# Altium schematic symbol library chip.SchLib: 107 symbols (part 1 of 2)
Pins are listed as number, name and electrical type; pins without a type are passive.

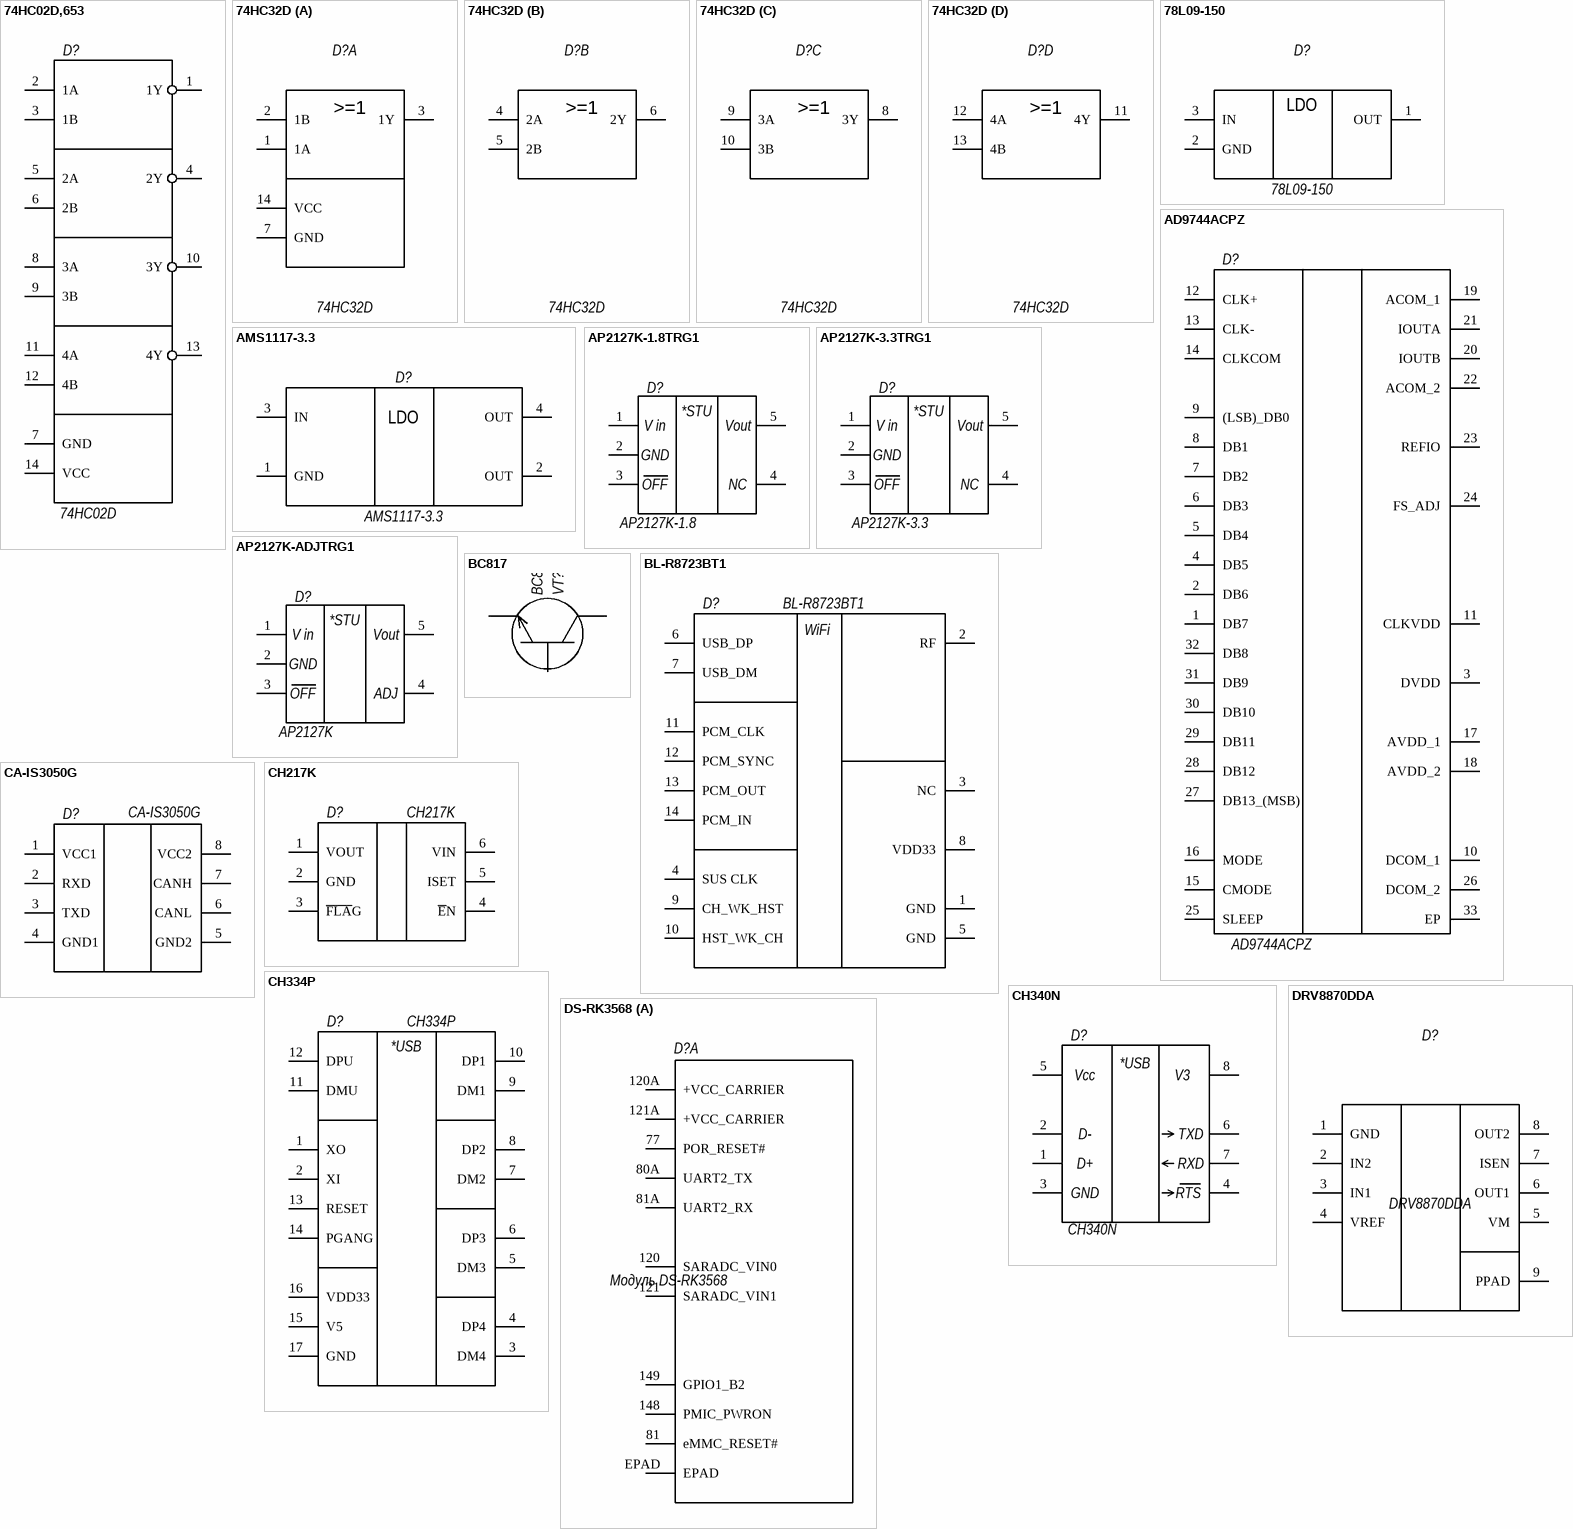
[diagram p0: symbols 74HC02D,653 to DS-RK3568]

## 74HC02D,653
designator D?, comment 74HC02D
74HC02D,653 Four 2OR-NOT logic elements SOIC-14; Manufacturer: Nexperia; BOM1: SOIC-14 74HC02D,653; ValueBOM: 74HC02D,653   Nexperia; Part Number: 74HC02D,653; Value: 74HC02D; Package: SOIC-14; BOM2: SOIC-14 74HC02D,653
footprint SOIC-14 R-14 (SOIC, 14-Leads, Body 8.65x3.90mm, Pitch 1.27mm, IPC Medium Density)
pins: 1 1Y, 2 1A, 3 1B, 4 2Y, 5 2A, 6 2B, 7 GND, 8 3A, 9 3B, 10 3Y, 11 4A, 12 4B, 13 4Y, 14 VCC

## 74HC32D
designator D?
SOIC14 Quad 2-input OR gate; Part Number: 74HC32D,653; Manufacturer: NEXPERIA; Value: 74HC32D; Package: SOIC-14; Temperature Range: -40…+85°C
footprint SOIC-14 (SOIC, 14-Leads, Body 8.65x3.90mm, Pitch 1.27mm, IPC Medium Density)
part A pins: 1 1A, 2 1B, 3 1Y, 7 GND, 14 VCC
part B pins: 4 2A, 5 2B, 6 2Y
part C pins: 8 3Y, 9 3A, 10 3B
part D pins: 11 4Y, 12 4A, 13 4B
part A text: >=1
part B text: >=1
part C text: >=1
part D text: >=1

## 78L09-150
designator D?
LDO-SOT-89-3_4-9V-0.150A; Manufacturer: UMW; Part Number: 78L09-150; Value: 78L09-150; Package: SOT-89-3; Temperature Range: -40…+125°C
footprint SOT-89 (SOT89, 3-Leads, Body 4.50x2.50mm, Pitch 1.50mm, Lead Span 3.3mm, IPC Medium Density)
pins: 1 OUT, 2 GND, 3 IN
text: LDO

## AD9744ACPZ
designator D?
14-Bit, 210 MSPS TxDAC D/A Converter; Manufacturer: LINEAR; BOM1: LFCSP_WQ-32 AD9744ACPZ; ValueBOM: AD9744ACPZ   LINEAR; Package: LFCSP_WQ-32; Value: AD9744ACPZ; Part Number: AD9744ACPZ; BOM2: LFCSP_WQ-32 AD9744ACPZ
footprint QFN50P500X500X80-33N-D
pins: 1 DB7, 2 DB6, 3 DVDD, 4 DB5, 5 DB4, 6 DB3, 7 DB2, 8 DB1, 9 (LSB)_DB0, 10 DCOM_1, 11 CLKVDD, 12 CLK+, 13 CLK-, 14 CLKCOM, 15 CMODE, 16 MODE, 17 AVDD_1, 18 AVDD_2, 19 ACOM_1, 20 IOUTB, 21 IOUTA, 22 ACOM_2, 23 REFIO, 24 FS_ADJ, 25 SLEEP, 26 DCOM_2, 27 DB13_(MSB), 28 DB12, 29 DB11, 30 DB10, 31 DB9, 32 DB8, 33 EP

## AMS1117-3.3
designator D?
LDO-SOT223_4-3.3V-1A; Manufacturer: UMW; Part Number: AMS1117-3.3; Value: AMS1117-3.3; Package: SOT-223-4; Temperature Range: -40…+125°C
footprint STD_SOT-223-4
pins: 1 GND, 2 OUT, 3 IN, 4 OUT
text: LDO

## AP2127K-1.8TRG1
designator D?, comment AP2127K-1.8
AP2127K-1.8TRG1 300mA high speed, extremely low noise cmos LDO regulator; Manufacturer: Diodes Incorporated; BOM1: SOT23-5 AP2127K-1.8TRG1; ValueBOM: AP2127K-1.8TRG1   Diodes Incorporated; Value: AP2127K-1.8; Part Number: AP2127K-1.8TRG1; Package: SOT23-5; BOM2: SOT23-5 AP2127K-1.8TRG1
footprint SOT23-5N (SOT23, 5-Leads, Body 2.9x1.3mm, Pitch 0.95mm, Lead Span 2.5mm, IPC Medium Density)
pins: 1, 2, 3, 4, 5
text: *STU; V in; Vout; GND; OFF; NC

## AP2127K-3.3TRG1
designator D?, comment AP2127K-3.3
AP2127K-3.3TRG1 300mA high speed, extremely low noise cmos LDO regulator; Manufacturer: Diodes Incorporated; BOM1: SOT23-5 AP2127K-3.3TRG1; ValueBOM: AP2127K-3.3TRG1   Diodes Incorporated; Value: AP2127K-3.3; Part Number: AP2127K-3.3TRG1; Package: SOT23-5; BOM2: SOT23-5 AP2127K-3.3TRG1
footprint SOT23-5N (SOT23, 5-Leads, Body 2.9x1.3mm, Pitch 0.95mm, Lead Span 2.5mm, IPC Medium Density)
pins: 1, 2, 3, 4, 5
text: *STU; V in; Vout; GND; OFF; NC

## AP2127K-ADJTRG1
designator D?, comment AP2127K
AP2127K-ADJTRG1 300mA high speed, extremely low noise cmos LDO regulator; Manufacturer: Diodes Incorporated; BOM1: SOT23-5 AP2127K-ADJTRG1; ValueBOM: AP2127K-ADJTRG1   Diodes Incorporated; Value: AP2127K; Part Number: AP2127K-ADJTRG1; Package: SOT23-5; BOM2: SOT23-5 AP2127K-ADJTRG1
footprint SOT23-5N (SOT23, 5-Leads, Body 2.9x1.3mm, Pitch 0.95mm, Lead Span 2.5mm, IPC Medium Density)
pins: 1, 2, 3, 4, 5
text: *STU; V in; Vout; GND; OFF; ADJ

## BC817
designator VT?
SOT23-NPN-45V-0.5A; Manufacturer: NXP; Collector-Emitter Voltage: 45 V; Collector-Base Voltage: 50 V; Emitter-Base Voltage: 5 V; Collector Current: 0.5 A; Power Disspansion: 250 mW; Part Number: BC817; Value: BC817; Package: SOT-23; Temperature Range: -60…+150°C; ComponentLink1URL: http://www.nxp.com/documents/data_sheet/BC817_BC817W_BC337.pdf; ComponentLink1Description: Datasheet (Manufacturer)
footprint STD_SOT-23-3
pins: 1 B, 2 E, 3 C

## BL-R8723BT1
designator D?
802.11n 150Mbps USB WiFi and BT Combo Module Specification. SMD 14Pins, 12.2*13.4*1.6mm; Manufacturer: WCH; BOM1: SMD 14Pins BL-R8723BT1; ValueBOM: BL-R8723BT1   WCH; Value: BL-R8723BT1; Part Number: BL-R8723BT1; Package: SMD 14Pins; BOM2: SMD 14Pins BL-R8723BT1
footprint BL-R8723BT1
pins: 1 GND, 2 RF, 3 NC, 4 SUS CLK, 5 GND, 6 USB_DP, 7 USB_DM, 8 VDD33, 9 CH_WK_HST, 10 HST_WK_CH, 11 PCM_CLK, 12 PCM_SYNC, 13 PCM_OUT, 14 PCM_IN
text: WiFi

## CA-IS3050G
designator D?
CA-IS305x 5kVRMS Isolated CAN Transceivers; Manufacturer: Chipanalog Incorporated; BOM1: SOIC8-WB CA-IS3050G; ValueBOM: CA-IS3050G   Chipanalog Incorporated; Value: CA-IS3050G; Part Number: CA-IS3050G; Package: SOIC8-WB; BOM2: SOIC8-WB CA-IS3050G
footprint SOIC127P1150X280-8N
pins: 1 VCC1, 2 RXD, 3 TXD, 4 GND1, 5 GND2, 6 CANL, 7 CANH, 8 VCC2

## CH217K
designator D?
USB Current limiting Power Distribution Switch Chip CH217; Manufacturer: WCH; BOM1: SOT23-6 CH217K; ValueBOM: CH217K   WCH; Value: CH217K; Part Number: CH217K; Package: SOT23-6; BOM2: SOT23-6 CH217K
footprint SOT23-6L (SOT23, 6-Leads, Body 2.9x1.3mm, Pitch 0.95mm, Lead Span 2.5mm, IPC High Density)
footprint SOT23-6M (SOT23, 6-Leads, Body 2.9x1.3mm, Pitch 0.95mm, Lead Span 2.5mm, IPC Low Density)
footprint SOT23-6N (SOT23, 6-Leads, Body 2.9x1.3mm, Pitch 0.95mm, Lead Span 2.5mm, IPC Medium Density)
pins: 1 VOUT, 2 GND, 3 ~{FLA}G, 4 ~{E}N, 5 ISET, 6 VIN

## CH334P
designator D?
QFN-16(3x3) HUB USB 2.0 compatible Voltage - Supply 3.3V Operating Temperature -40~+85; Manufacturer: WCH; BOM1: QFN-16(3x3) CH334P; ValueBOM: CH334P   WCH; Value: CH334P; Part Number: CH334P; Package: QFN-16(3x3); BOM2: QFN-16(3x3) CH334P
footprint QFN50P300X300X80-17N-D
pins: 1 XO, 2 XI, 3 DM4, 4 DP4, 5 DM3, 6 DP3, 7 DM2, 8 DP2, 9 DM1, 10 DP1, 11 DMU, 12 DPU, 13 RESET, 14 PGANG, 15 V5, 16 VDD33, 17 GND
text: *USB

## CH340N
designator D?
CH340N Full-speed USB device interface, USB 2.0 compatible.; Manufacturer: WCH; BOM1: SOP-8L CH340N; ValueBOM: CH340N   WCH; Value: CH340N; Part Number: CH340N; Package: SOP-8L; BOM2: SOP-8L CH340N
footprint SOP-8L (SOIC127P600X175-8N)
footprint SOP-8N (SOIC127P600X175-8N)
pins: 1, 2, 3, 4, 5, 6, 7, 8
text: *USB; Vcc; V3; D-; TXD; D+; RXD; GND; RTS

## DRV8870DDA
designator D?
DRV8870 3.6-A Brushed DC Motor Driver (PWM Control); Manufacturer: TI; Part Number: DRV8870DDA; Value: DRV8870DDA; Package: SO PowerPAD; Temperature Range: -40…+125°C
footprint SO  Power PAD
pins: 1 GND, 2 IN2, 3 IN1, 4 VREF, 5 VM, 6 OUT1, 7 ISEN, 8 OUT2, 9 PPAD

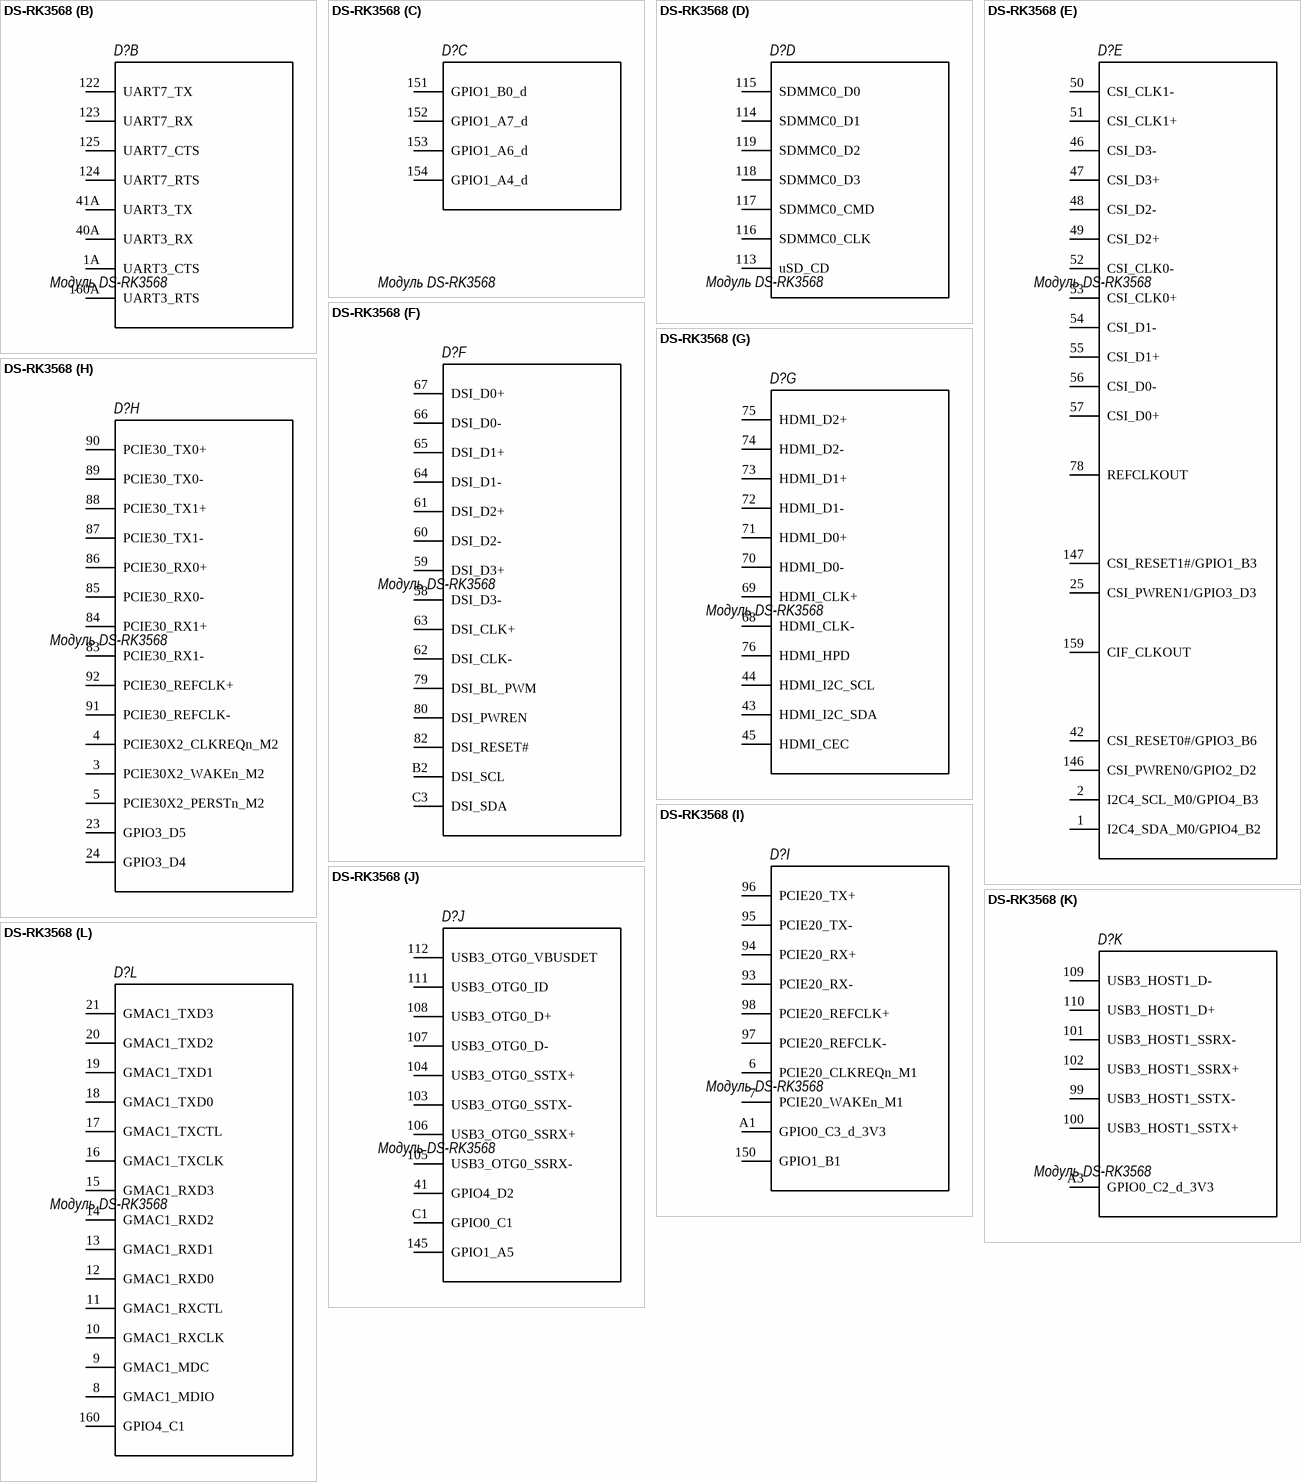
[diagram p1: symbol DS-RK3568]

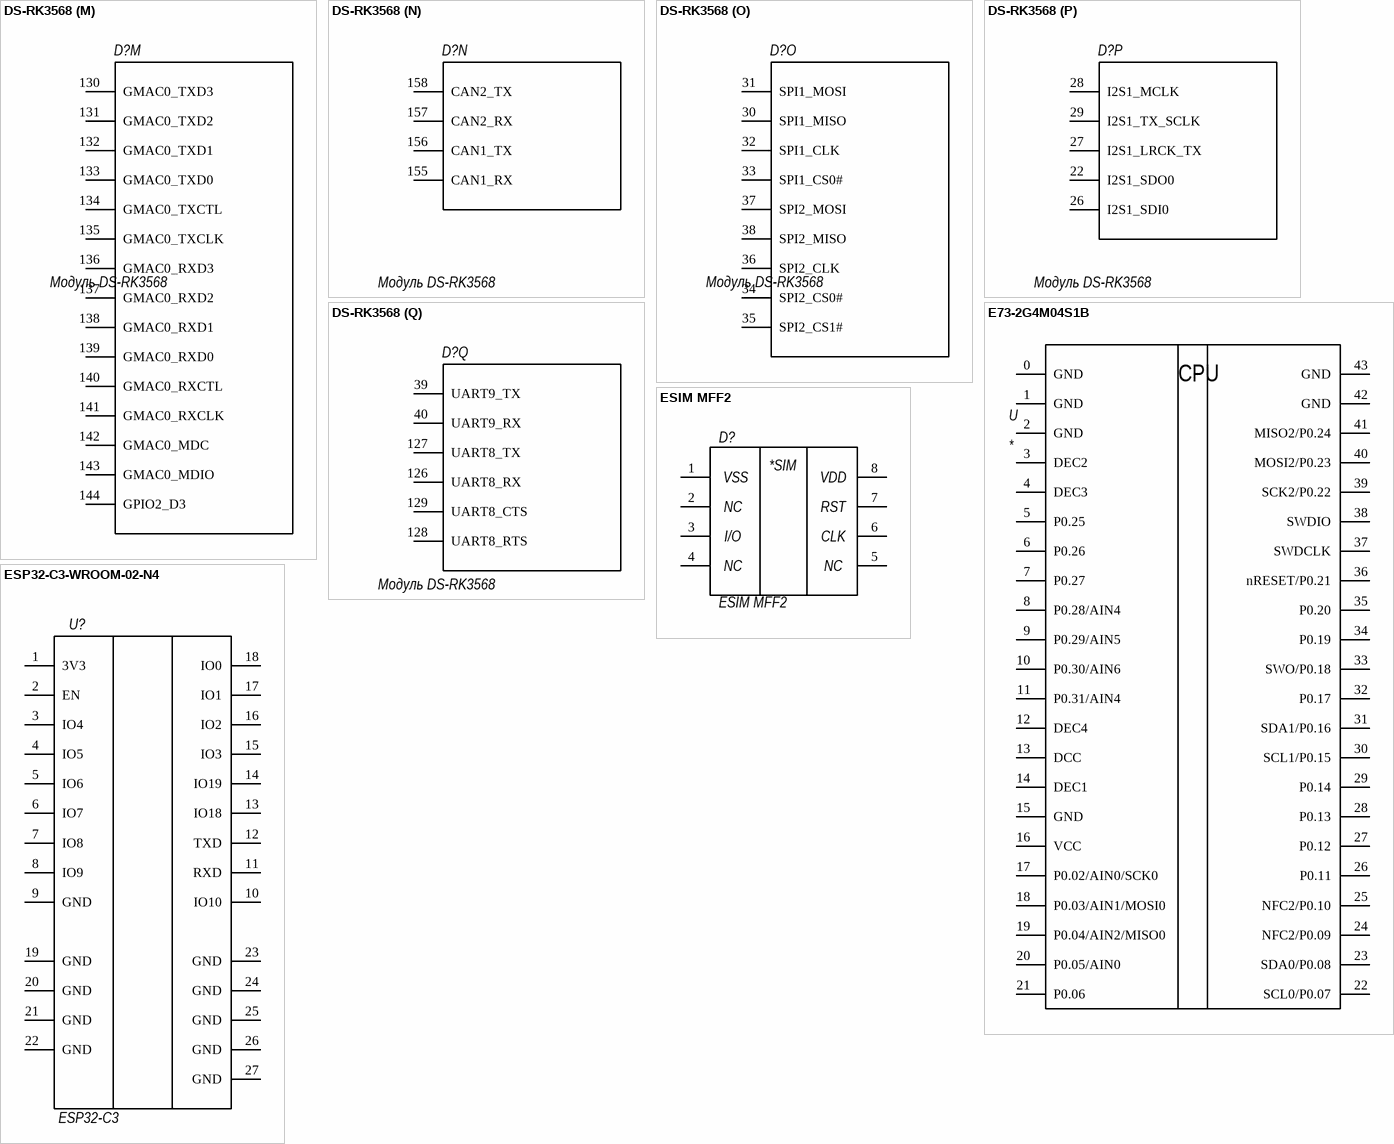
[diagram p2: symbols DS-RK3568 to ESP32-C3-WROOM-02-N4]

## DS-RK3568
designator D?, comment Модуль DS-RK3568
Part Number: DS-RK3568; BOM1: Модуль DS-RK3568; BOM2: Модуль DS-RK3568; Value: Модуль DS-RK3568; Package: DS-RK3568; ValueBOM: DS-RK3568
footprint DS-RK3568
part A pins: 77 POR_RESET#, 80A UART2_TX, 81 eMMC_RESET#, 81A UART2_RX, 120 SARADC_VIN0, 120A +VCC_CARRIER, 121 SARADC_VIN1, 121A +VCC_CARRIER, 148 PMIC_PWRON, 149 GPIO1_B2, EPAD
part B pins: 1A UART3_CTS, 40A UART3_RX, 41A UART3_TX, 122 UART7_TX, 123 UART7_RX, 124 UART7_RTS, 125 UART7_CTS, 160A UART3_RTS
part C pins: 151 GPIO1_B0_d, 152 GPIO1_A7_d, 153 GPIO1_A6_d, 154 GPIO1_A4_d
part D pins: 113 uSD_CD, 114 SDMMC0_D1, 115 SDMMC0_D0, 116 SDMMC0_CLK, 117 SDMMC0_CMD, 118 SDMMC0_D3, 119 SDMMC0_D2
part E pins: 1 I2C4_SDA_M0/GPIO4_B2, 2 I2C4_SCL_M0/GPIO4_B3, 25 CSI_PWREN1/GPIO3_D3, 42 CSI_RESET0#/GPIO3_B6, 46 CSI_D3-, 47 CSI_D3+, 48 CSI_D2-, 49 CSI_D2+, 50 CSI_CLK1-, 51 CSI_CLK1+, 52 CSI_CLK0-, 53 CSI_CLK0+, 54 CSI_D1-, 55 CSI_D1+, 56 CSI_D0-, 57 CSI_D0+, 78 REFCLKOUT, 146 CSI_PWREN0/GPIO2_D2, 147 CSI_RESET1#/GPIO1_B3, 159 CIF_CLKOUT
part F pins: 58 DSI_D3-, 59 DSI_D3+, 60 DSI_D2-, 61 DSI_D2+, 62 DSI_CLK-, 63 DSI_CLK+, 64 DSI_D1-, 65 DSI_D1+, 66 DSI_D0-, 67 DSI_D0+, 79 DSI_BL_PWM, 80 DSI_PWREN, 82 DSI_RESET#, B2 DSI_SCL, C3 DSI_SDA
part G pins: 43 HDMI_I2C_SDA, 44 HDMI_I2C_SCL, 45 HDMI_CEC, 68 HDMI_CLK-, 69 HDMI_CLK+, 70 HDMI_D0-, 71 HDMI_D0+, 72 HDMI_D1-, 73 HDMI_D1+, 74 HDMI_D2-, 75 HDMI_D2+, 76 HDMI_HPD
part H pins: 3 PCIE30X2_WAKEn_M2, 4 PCIE30X2_CLKREQn_M2, 5 PCIE30X2_PERSTn_M2, 23 GPIO3_D5, 24 GPIO3_D4, 83 PCIE30_RX1-, 84 PCIE30_RX1+, 85 PCIE30_RX0-, 86 PCIE30_RX0+, 87 PCIE30_TX1-, 88 PCIE30_TX1+, 89 PCIE30_TX0-, 90 PCIE30_TX0+, 91 PCIE30_REFCLK-, 92 PCIE30_REFCLK+
part I pins: 6 PCIE20_CLKREQn_M1, 7 PCIE20_WAKEn_M1, 93 PCIE20_RX-, 94 PCIE20_RX+, 95 PCIE20_TX-, 96 PCIE20_TX+, 97 PCIE20_REFCLK-, 98 PCIE20_REFCLK+, 150 GPIO1_B1, A1 GPIO0_C3_d_3V3
part J pins: 41 GPIO4_D2, 103 USB3_OTG0_SSTX-, 104 USB3_OTG0_SSTX+, 105 USB3_OTG0_SSRX-, 106 USB3_OTG0_SSRX+, 107 USB3_OTG0_D-, 108 USB3_OTG0_D+, 111 USB3_OTG0_ID, 112 USB3_OTG0_VBUSDET, 145 GPIO1_A5, C1 GPIO0_C1
part K pins: 99 USB3_HOST1_SSTX-, 100 USB3_HOST1_SSTX+, 101 USB3_HOST1_SSRX-, 102 USB3_HOST1_SSRX+, 109 USB3_HOST1_D-, 110 USB3_HOST1_D+, A3 GPIO0_C2_d_3V3
part L pins: 8 GMAC1_MDIO, 9 GMAC1_MDC, 10 GMAC1_RXCLK, 11 GMAC1_RXCTL, 12 GMAC1_RXD0, 13 GMAC1_RXD1, 14 GMAC1_RXD2, 15 GMAC1_RXD3, 16 GMAC1_TXCLK, 17 GMAC1_TXCTL, 18 GMAC1_TXD0, 19 GMAC1_TXD1, 20 GMAC1_TXD2, 21 GMAC1_TXD3, 160 GPIO4_C1
part M pins: 130 GMAC0_TXD3, 131 GMAC0_TXD2, 132 GMAC0_TXD1, 133 GMAC0_TXD0, 134 GMAC0_TXCTL, 135 GMAC0_TXCLK, 136 GMAC0_RXD3, 137 GMAC0_RXD2, 138 GMAC0_RXD1, 139 GMAC0_RXD0, 140 GMAC0_RXCTL, 141 GMAC0_RXCLK, 142 GMAC0_MDC, 143 GMAC0_MDIO, 144 GPIO2_D3
part N pins: 155 CAN1_RX, 156 CAN1_TX, 157 CAN2_RX, 158 CAN2_TX
part O pins: 30 SPI1_MISO, 31 SPI1_MOSI, 32 SPI1_CLK, 33 SPI1_CS0#, 34 SPI2_CS0#, 35 SPI2_CS1#, 36 SPI2_CLK, 37 SPI2_MOSI, 38 SPI2_MISO
part P pins: 22 I2S1_SDO0, 26 I2S1_SDI0, 27 I2S1_LRCK_TX, 28 I2S1_MCLK, 29 I2S1_TX_SCLK
part Q pins: 39 UART9_TX, 40 UART9_RX, 126 UART8_RX, 127 UART8_TX, 128 UART8_RTS, 129 UART8_CTS

## E73-2G4M04S1B
designator U
nRF52832 BLE 4.2/5.0 SMD Wireless Module; MP: E73-2G4M04S1B; MF: EBYTE; Availability: Unavailable; Price: None; Package: Package; Value: *; SnapEDA_Link: https://www.snapeda.com/parts/E73-2G4M04S1B/EBYTE/view-part/4219264/?ref=snap; Part Number: E73-2G4M04S1B
footprint XCVR_E73-2G4M04S1B
pins: 0 GND, 1 GND, 2 GND, 3 DEC2, 4 DEC3, 5 P0.25, 6 P0.26, 7 P0.27, 8 P0.28/AIN4, 9 P0.29/AIN5, 10 P0.30/AIN6, 11 P0.31/AIN4, 12 DEC4, 13 DCC, 14 DEC1, 15 GND, 16 VCC, 17 P0.02/AIN0/SCK0, 18 P0.03/AIN1/MOSI0, 19 P0.04/AIN2/MISO0, 20 P0.05/AIN0, 21 P0.06, 22 SCL0/P0.07, 23 SDA0/P0.08, 24 NFC2/P0.09, 25 NFC2/P0.10, 26 P0.11, 27 P0.12, 28 P0.13, 29 P0.14, 30 SCL1/P0.15, 31 SDA1/P0.16, 32 P0.17, 33 SWO/P0.18, 34 P0.19, 35 P0.20, 36 nRESET/P0.21, 37 SWDCLK, 38 SWDIO, 39 SCK2/P0.22, 40 MOSI2/P0.23, 41 MISO2/P0.24, 42 GND, 43 GND
text: CPU

## ESIM MFF2
designator D?
Value: ESIM MFF2; Part Number: ESIM MFF2; Package: MFF2; BOM1: ESIM MFF2; BOM2: ESIM MFF2; ValueBOM: ESIM MFF2
footprint MFF2
pins: 1, 2, 3, 4, 5, 6, 7, 8
text: *SIM; VSS; VDD; NC; RST; I/O; CLK

## ESP32-C3-WROOM-02-N4
designator U?, comment ESP32-C3
ESP32-C3-WROOM-02-N4 WiFi; PCB; SMD; 18x20x3,2мм; Flash: 4MБ; SRAM: 400kБ; Manufacturer: ESPRESSIF; BOM1: SMD 18x20x3,2mm ESP32-C3-WROOM-02-N4; ValueBOM: ESP32-C3-WROOM-02-N4   ESPRESSIF; Value: ESP32-C3; Part Number: ESP32-C3-WROOM-02-N4; Package: SMD 18x20x3,2mm; BOM2: SMD 18x20x3,2mm ESP32-C3-WROOM-02-N4
footprint ESP32C3WROOM02N4
pins: 1 3V3, 2 EN, 3 IO4, 4 IO5, 5 IO6, 6 IO7, 7 IO8, 8 IO9, 9 GND, 10 IO10, 11 RXD, 12 TXD, 13 IO18, 14 IO19, 15 IO3, 16 IO2, 17 IO1, 18 IO0, 19 GND, 20 GND, 21 GND, 22 GND, 23 GND, 24 GND, 25 GND, 26 GND, 27 GND

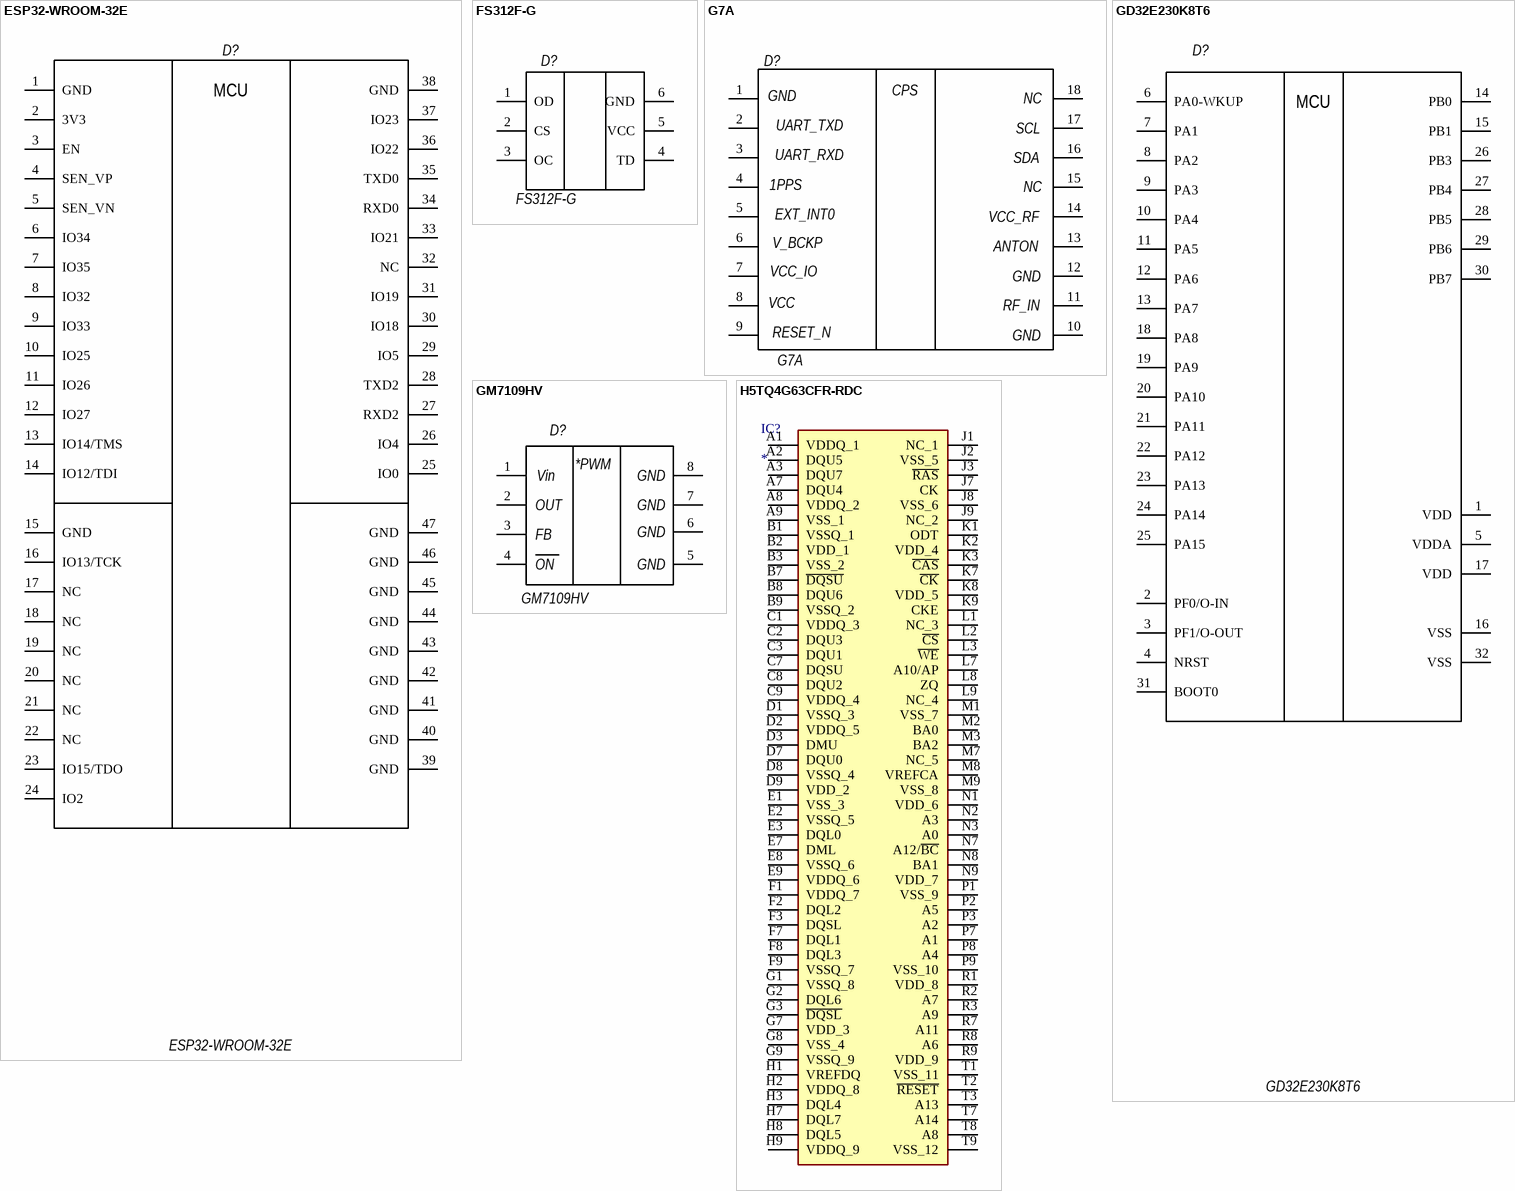
[diagram p3: symbols ESP32-WROOM-32E to H5TQ4G63CFR-RDC]

## ESP32-WROOM-32E
designator D?
Xtensa, dual-core 32-bit LX6,240 MHz; Part Number: ESP32-WROOM-32E-N4; Manufacturer: Espressif Systems; Value: ESP32-WROOM-32E; Package: WROOM-32E-47; Temperature Range: -40…+85°C; ComponentLink1URL: http://www.st.com/content/ccc/resource/technical/document/datasheet/e4/f3/1a/89/5a/02/46/ae/CD00220364.pdf/files/CD00220364.pdf/jcr:content/translations/en.CD00220364.pdf; ComponentLink1Description: Datasheet (Manufacturer)
footprint ESP32WROOM32EM113EH3200PS3Q0 (ESP32-WROOM-32E)
pins: 1 GND "Backup power supply", 2 3V3, 3 EN, 4 SEN_VP, 5 SEN_VN, 6 IO34, 7 IO35, 8 IO32, 9 IO33, 10 IO25, 11 IO26, 12 IO27, 13 IO14/TMS, 14 IO12/TDI, 15 GND, 16 IO13/TCK, 17 NC, 18 NC, 19 NC, 20 NC, 21 NC, 22 NC, 23 IO15/TDO, 24 IO2, 25 IO0, 26 IO4, 27 RXD2, 28 TXD2, 29 IO5, 30 IO18, 31 IO19, 32 NC, 33 IO21, 34 RXD0, 35 TXD0, 36 IO22, 37 IO23, 38 GND, 39 GND, 40 GND, 41 GND, 42 GND, 43 GND, 44 GND, 45 GND, 46 GND, 47 GND
text: MCU

## FS312F-G
designator D?
Manufacturer: Fortune; BOM1: SOT23-6 FS312F-G; ValueBOM: FS312F-G   Fortune; Value: FS312F-G; Part Number: FS312F-G; Package: SOT23-6; BOM2: SOT23-6 FS312F-G
footprint SOT23-6N (SOT23, 6-Leads, Body 2.9x1.3mm, Pitch 0.95mm, Lead Span 2.5mm, IPC Medium Density)
footprint SOT23-6M (SOT23, 6-Leads, Body 2.9x1.3mm, Pitch 0.95mm, Lead Span 2.5mm, IPC Low Density)
footprint SOT23-6L (SOT23, 6-Leads, Body 2.9x1.3mm, Pitch 0.95mm, Lead Span 2.5mm, IPC High Density)
pins: 1 OD, 2 CS, 3 OC, 4 TD, 5 VCC, 6 GND

## G7A
designator D?
Manufacturer: Neoway; ValueBOM: G7A   Neoway; Value: G7A; Part Number: G7A; Package: G7A; BOM1: G7A; BOM2: G7A
footprint XCVR_G7A
pins: 1, 2, 3, 4, 5, 6, 7, 8, 9, 10, 11, 12, 13, 14, 15, 16, 17, 18
text: CPS; GND; NC; UART_TXD; SCL; UART_RXD; SDA; 1PPS; EXT_INT0; VCC_RF; V_BCKP; ANTON; VCC_IO; VCC; RF_IN; RESET_N

## GD32E230K8T6
designator D?
LQFP32-MPU-64K-8K; Manufacturer: GigaDevice; Part Number: GD32E230K8T6; Value: GD32E230K8T6; Package: LQFP-32; Temperature Range: -40…+85°C; ComponentLink1URL: http://www.st.com/content/ccc/resource/technical/document/datasheet/e4/f3/1a/89/5a/02/46/ae/CD00220364.pdf/files/CD00220364.pdf/jcr:content/translations/en.CD00220364.pdf; ComponentLink1Description: Datasheet (Manufacturer)
footprint LQFP-32 (Thin QFP, 32-Leads, Body 7x7mm, Pitch 0.8mm, IPC Medium Density)
pins: 1 VDD "=Name", 2 PF0/O-IN "=Name", 3 PF1/O-OUT "=Name", 4 NRST "=Name", 5 VDDA "=Name", 6 PA0-WKUP "=Name", 7 PA1 "=Name", 8 PA2 "=Name", 9 PA3 "=Name", 10 PA4 "=Name", 11 PA5 "=Name", 12 PA6 "=Name", 13 PA7 "=Name", 14 PB0 "=Name", 15 PB1 "=Name", 16 VSS "=Name", 17 VDD "=Name", 18 PA8 "=Name", 19 PA9 "=Name", 20 PA10 "=Name", 21 PA11 "=Name", 22 PA12 "=Name", 23 PA13 "=Name", 24 PA14 "=Name", 25 PA15 "=Name", 26 PB3 "=Name", 27 PB4 "=Name", 28 PB5 "=Name", 29 PB6 "=Name", 30 PB7 "=Name", 31 BOOT0 "=Name", 32 VSS "=Name"
text: MCU

## GM7109HV
designator D?
60V IN , 3A, Asynchronous Step-Down Converter; Manufacturer: Микрон; BOM1: SO-8 GM7109HV; ValueBOM: GM7109HV   Микрон; Part Number: GM7109HV; Value: GM7109HV; Package: SO-8; Temperature Range: -40…+125°C; BOM2: SO-8 GM7109HV
footprint SOIC-8L (SOIC127P600X175-8N)
pins: 1, 2, 3, 4, 5, 6, 7, 8
text: *PWM; Vin; GND; OUT; FB; ON

## H5TQ4G63CFR-RDC
designator IC?
Integrated Circuit; Manufacturer_Name: Hynix; Manufacturer_Part_Number: H5TQ4G63CFR-RDC; Datasheet Link: https://4donline.ihs.com/images/VipMasterIC/IC/HYSC/HYSC-S-A0002810838/HYSC-S-A0002810838-1.pdf?hkey=EF798316E3902B6ED9A73243A3159BB0; Height: 1.2mm
footprint BGA96C80P9X16_750X1300X120
pins: A1 VDDQ_1, A2 DQU5, A3 DQU7, A7 DQU4, A8 VDDQ_2, A9 VSS_1, B1 VSSQ_1, B2 VDD_1, B3 VSS_2, B7 ~{DQSU}, B8 DQU6, B9 VSSQ_2, C1 VDDQ_3, C2 DQU3, C3 DQU1, C7 DQSU, C8 DQU2, C9 VDDQ_4, D1 VSSQ_3, D2 VDDQ_5, D3 DMU, D7 DQU0, D8 VSSQ_4, D9 VDD_2, E1 VSS_3, E2 VSSQ_5, E3 DQL0, E7 DML, E8 VSSQ_6, E9 VDDQ_6, F1 VDDQ_7, F2 DQL2, F3 DQSL, F7 DQL1, F8 DQL3, F9 VSSQ_7, G1 VSSQ_8, G2 DQL6, G3 ~{DQSL}, G7 VDD_3, G8 VSS_4, G9 VSSQ_9, H1 VREFDQ, H2 VDDQ_8, H3 DQL4, H7 DQL7, H8 DQL5, H9 VDDQ_9, J1 NC_1, J2 VSS_5, J3 ~{RAS}, J7 CK, J8 VSS_6, J9 NC_2, K1 ODT, K2 VDD_4, K3 ~{CAS}, K7 ~{CK}, K8 VDD_5, K9 CKE, L1 NC_3, L2 ~{CS}, L3 ~{WE}, L7 A10/AP, L8 ZQ, L9 NC_4, M1 VSS_7, M2 BA0, M3 BA2, M7 NC_5, M8 VREFCA, M9 VSS_8, N1 VDD_6, N2 A3, N3 A0, N7 A12/~{BC}, N8 BA1, N9 VDD_7, P1 VSS_9, P2 A5, P3 A2, P7 A1, P8 A4, P9 VSS_10, R1 VDD_8, R2 A7, R3 A9, R7 A11, R8 A6, R9 VDD_9, T1 VSS_11, T2 ~{RESET}, T3 A13, T7 A14, T8 A8, T9 VSS_12

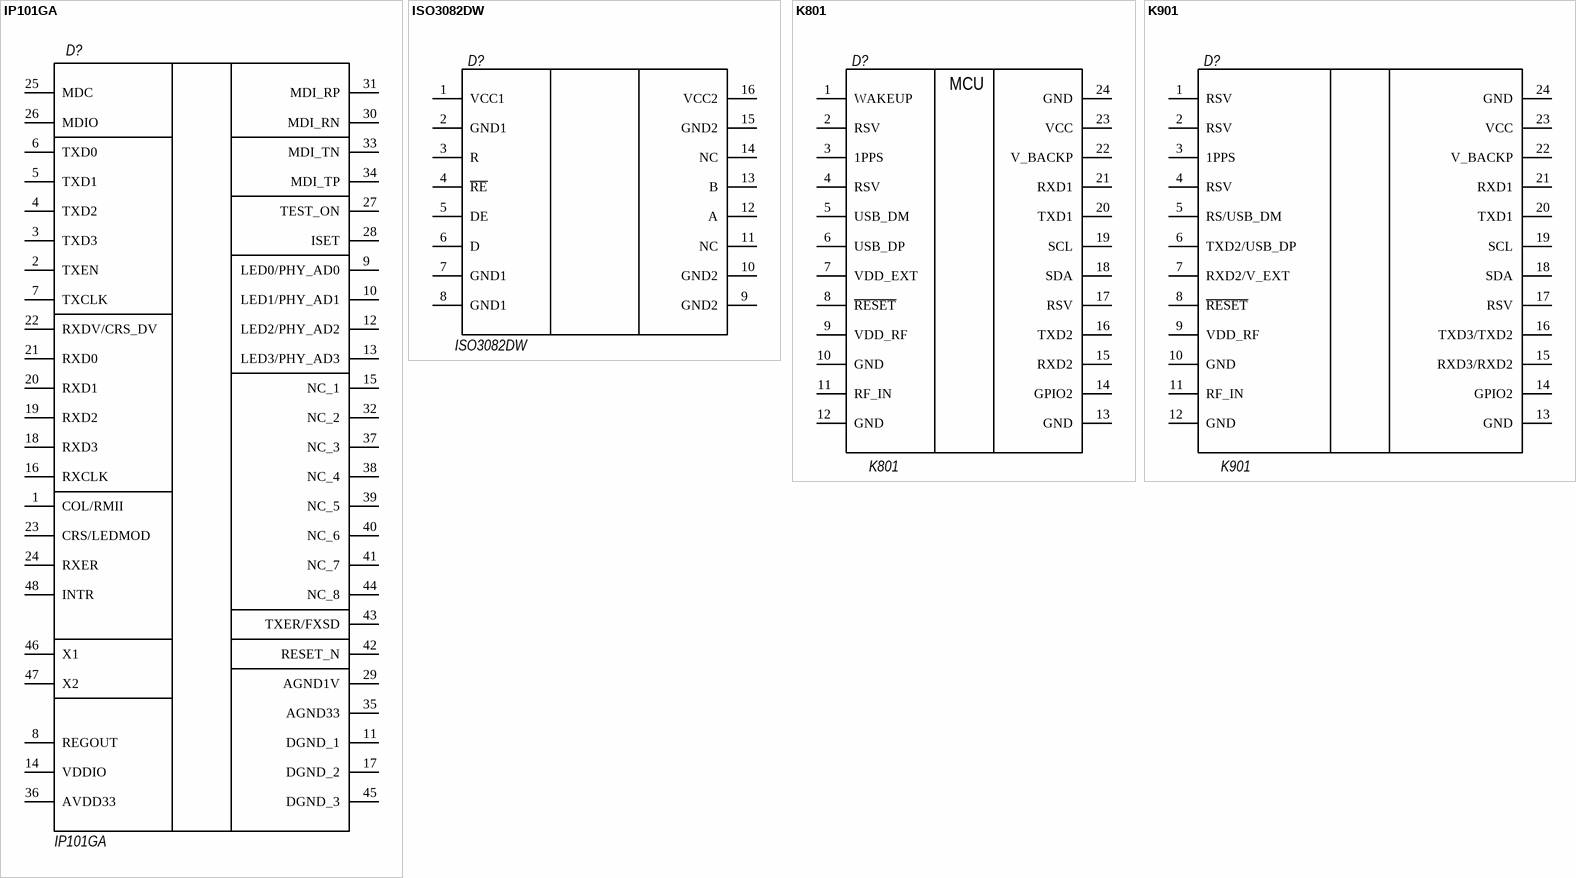
[diagram p4: symbols IP101GA to K901]

## IP101GA
designator D?
Single Port 10/100 MII/RMII/TP/Fiber Fast Ethernet Transceiver; Manufacturer: Integrated Circuit; BOM1: 48LQFP IP101GA; ValueBOM: IP101GA   Integrated Circuit; Package: 48LQFP; Value: IP101GA; Part Number: IP101GA; BOM2: 48LQFP IP101GA
footprint QFP50P900X900X160-48N
pins: 1 COL/RMII, 2 TXEN, 3 TXD3, 4 TXD2, 5 TXD1, 6 TXD0, 7 TXCLK, 8 REGOUT, 9 LED0/PHY_AD0, 10 LED1/PHY_AD1, 11 DGND_1, 12 LED2/PHY_AD2, 13 LED3/PHY_AD3, 14 VDDIO, 15 NC_1, 16 RXCLK, 17 DGND_2, 18 RXD3, 19 RXD2, 20 RXD1, 21 RXD0, 22 RXDV/CRS_DV, 23 CRS/LEDMOD, 24 RXER, 25 MDC, 26 MDIO, 27 TEST_ON, 28 ISET, 29 AGND1V, 30 MDI_RN, 31 MDI_RP, 32 NC_2, 33 MDI_TN, 34 MDI_TP, 35 AGND33, 36 AVDD33, 37 NC_3, 38 NC_4, 39 NC_5, 40 NC_6, 41 NC_7, 42 RESET_N, 43 TXER/FXSD, 44 NC_8, 45 DGND_3, 46 X1, 47 X2, 48 INTR

## ISO3082DW
designator D?
Line Transceiver 1TR 1TX 1RX Texas Instruments ISO3082DW, Line Transceiver, EIA/TIA-422/ EIA/TIA-485/ RS-485, 3.3 V, 16-Pin SOIC (CA-IS3082WX CA-IS3088WX ISO3082DW ISO3088DW TPT7487-SOBR); BOM1: SOIC-16 ISO3082DW; ValueBOM: ISO3082DW   Texas Instruments; Value: ISO3082DW; Part Number: ISO3082DW; Manufacturer: Texas Instruments; Package: SOIC-16; BOM2: SOIC-16 ISO3082DW
footprint SOIC127P1030X265-16N
pins: 1 VCC1, 2 GND1, 3 R, 4 ~{RE}, 5 DE, 6 D, 7 GND1, 8 GND1, 9 GND2, 10 GND2, 11 NC, 12 A, 13 B, 14 NC, 15 GND2, 16 VCC2

## K801
designator D?
The K801 GNSS module is a high-performance, low-cost GNSS positioning module.; Part Number: SinoGNSS K801; Manufacturer: SinoGNSS; ValueBOM: SinoGNSS K801   SinoGNSS; Value: K801; Package: K801; BOM1: SinoGNSS K801; BOM2: SinoGNSS K801
footprint XCVR_LC29H
pins: 1 WAKEUP, 2 RSV, 3 1PPS, 4 RSV, 5 USB_DM, 6 USB_DP, 7 VDD_EXT, 8 ~{RESET}, 9 VDD_RF, 10 GND, 11 RF_IN, 12 GND, 13 GND, 14 GPIO2, 15 RXD2, 16 TXD2, 17 RSV, 18 SDA, 19 SCL, 20 TXD1, 21 RXD1, 22 V_BACKP, 23 VCC, 24 GND
text: MCU

## K901
designator D?
The K901 GNSS module is a high-performance positioning module.; Part Number: SinoGNSS K901; Manufacturer: SinoGNSS; ValueBOM: SinoGNSS K901   SinoGNSS; Value: K901; Package: K901; BOM1: SinoGNSS K901; BOM2: SinoGNSS K901
footprint K901_GNSS
pins: 1 RSV, 2 RSV, 3 1PPS, 4 RSV, 5 RS/USB_DM, 6 TXD2/USB_DP, 7 RXD2/V_EXT, 8 ~{RESET}, 9 VDD_RF, 10 GND, 11 RF_IN, 12 GND, 13 GND, 14 GPIO2, 15 RXD3/RXD2, 16 TXD3/TXD2, 17 RSV, 18 SDA, 19 SCL, 20 TXD1, 21 RXD1, 22 V_BACKP, 23 VCC, 24 GND

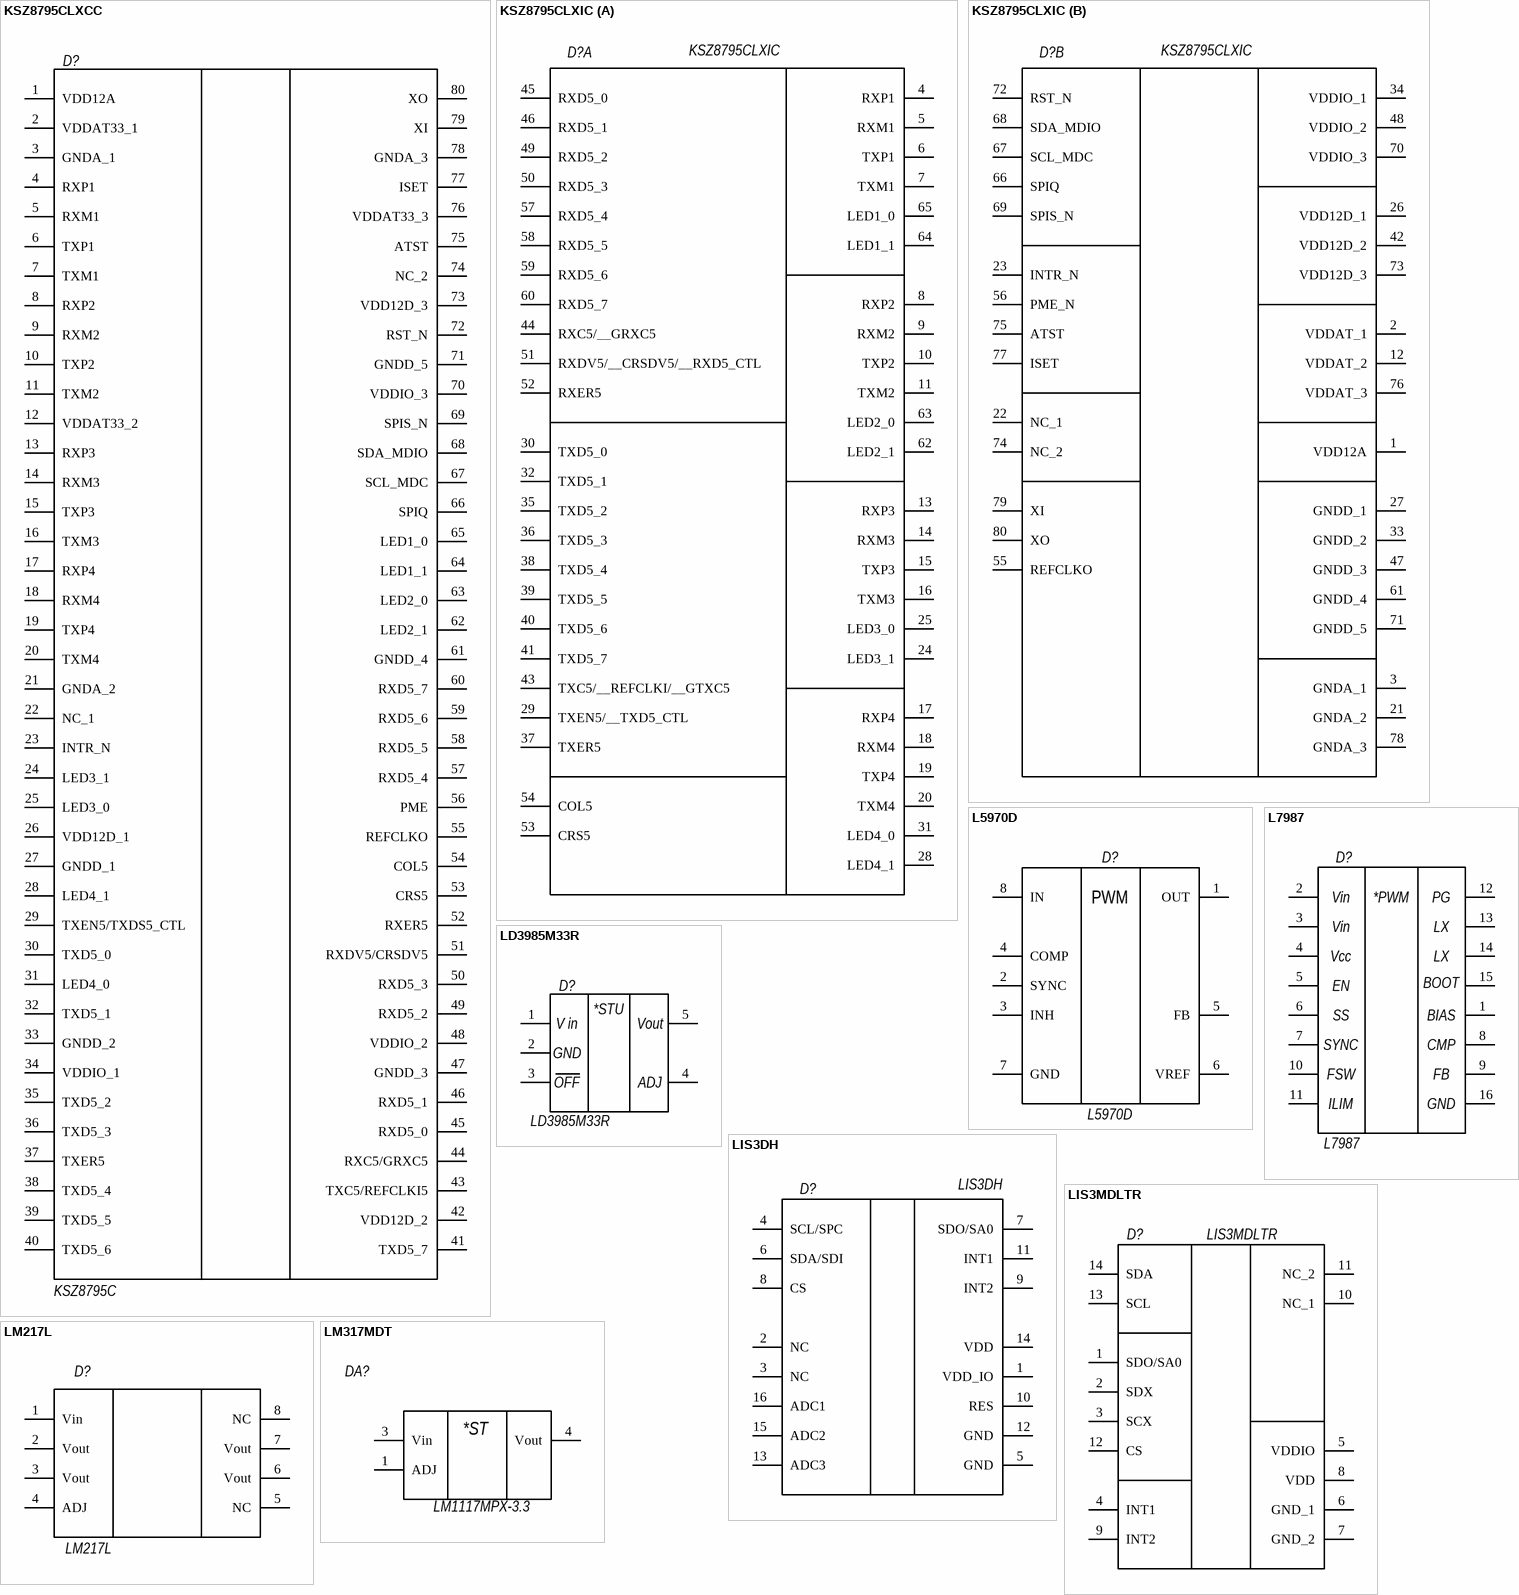
[diagram p5: symbols KSZ8795CLXCC to LM317MDT]

## KSZ8795CLXCC
designator D?, comment KSZ8795C
Ethernet ICs 5-Port 10/100 Switch with RGMII/GMII; Part Number: KSZ8795CLXCC; Manufacturer: Microchip; BOM1: LQFP 80 KSZ8795CLXCC; ValueBOM: KSZ8795CLXCC   Microchip; Value: KSZ8795C; Package: LQFP 80; BOM2: LQFP 80 KSZ8795CLXCC
footprint QFP40P1200X1200X160-80N
pins: 1 VDD12A, 2 VDDAT33_1, 3 GNDA_1, 4 RXP1, 5 RXM1, 6 TXP1, 7 TXM1, 8 RXP2, 9 RXM2, 10 TXP2, 11 TXM2, 12 VDDAT33_2, 13 RXP3, 14 RXM3, 15 TXP3, 16 TXM3, 17 RXP4, 18 RXM4, 19 TXP4, 20 TXM4, 21 GNDA_2, 22 NC_1, 23 INTR_N, 24 LED3_1, 25 LED3_0, 26 VDD12D_1, 27 GNDD_1, 28 LED4_1, 29 TXEN5/TXDS5_CTL, 30 TXD5_0, 31 LED4_0, 32 TXD5_1, 33 GNDD_2, 34 VDDIO_1, 35 TXD5_2, 36 TXD5_3, 37 TXER5, 38 TXD5_4, 39 TXD5_5, 40 TXD5_6, 41 TXD5_7, 42 VDD12D_2, 43 TXC5/REFCLKI5, 44 RXC5/GRXC5, 45 RXD5_0, 46 RXD5_1, 47 GNDD_3, 48 VDDIO_2, 49 RXD5_2, 50 RXD5_3, 51 RXDV5/CRSDV5, 52 RXER5, 53 CRS5, 54 COL5, 55 REFCLKO, 56 PME, 57 RXD5_4, 58 RXD5_5, 59 RXD5_6, 60 RXD5_7, 61 GNDD_4, 62 LED2_1, 63 LED2_0, 64 LED1_1, 65 LED1_0, 66 SPIQ, 67 SCL_MDC, 68 SDA_MDIO, 69 SPIS_N, 70 VDDIO_3, 71 GNDD_5, 72 RST_N, 73 VDD12D_3, 74 NC_2, 75 ATST, 76 VDDAT33_3, 77 ISET, 78 GNDA_3, 79 XI, 80 XO

## KSZ8795CLXIC
designator D?
Integrated 5-Port 10/100-Managed Ethernet Switch with Gigabit GMII/RGMII and MII/RMII Interfaces; Manufacturer: Microchip Technology Inc.; BOM1: LQFP-80 KSZ8795CLXIC; ValueBOM: KSZ8795CLXIC   Microchip Technology Inc.; Package: LQFP-80; Value: KSZ8795CLXIC; Part Number: KSZ8795CLXIC; BOM2: LQFP-80 KSZ8795CLXIC
footprint QFP40P1200X1200X160-80N
part A pins: 4 RXP1, 5 RXM1, 6 TXP1, 7 TXM1, 8 RXP2, 9 RXM2, 10 TXP2, 11 TXM2, 13 RXP3, 14 RXM3, 15 TXP3, 16 TXM3, 17 RXP4, 18 RXM4, 19 TXP4, 20 TXM4, 24 LED3_1, 25 LED3_0, 28 LED4_1, 29 TXEN5/__TXD5_CTL, 30 TXD5_0, 31 LED4_0, 32 TXD5_1, 35 TXD5_2, 36 TXD5_3, 37 TXER5, 38 TXD5_4, 39 TXD5_5, 40 TXD5_6, 41 TXD5_7, 43 TXC5/__REFCLKI/__GTXC5, 44 RXC5/__GRXC5, 45 RXD5_0, 46 RXD5_1, 49 RXD5_2, 50 RXD5_3, 51 RXDV5/__CRSDV5/__RXD5_CTL, 52 RXER5, 53 CRS5, 54 COL5, 57 RXD5_4, 58 RXD5_5, 59 RXD5_6, 60 RXD5_7, 62 LED2_1, 63 LED2_0, 64 LED1_1, 65 LED1_0
part B pins: 1 VDD12A, 2 VDDAT_1, 3 GNDA_1, 12 VDDAT_2, 21 GNDA_2, 22 NC_1, 23 INTR_N, 26 VDD12D_1, 27 GNDD_1, 33 GNDD_2, 34 VDDIO_1, 42 VDD12D_2, 47 GNDD_3, 48 VDDIO_2, 55 REFCLKO, 56 PME_N, 61 GNDD_4, 66 SPIQ, 67 SCL_MDC, 68 SDA_MDIO, 69 SPIS_N, 70 VDDIO_3, 71 GNDD_5, 72 RST_N, 73 VDD12D_3, 74 NC_2, 75 ATST, 76 VDDAT_3, 77 ISET, 78 GNDA_3, 79 XI, 80 XO

## L5970D
designator D?
SO8-STPDN-1A; Manufacturer: ST Microelectronics; Part Number: L5970D; Value: L5970D; Package: SOIC-8; Temperature Range: -40…+85°C
footprint STD_SOIC-8
pins: 1 OUT, 2 SYNC, 3 INH, 4 COMP, 5 FB, 6 VREF, 7 GND, 8 IN
text: PWM

## L7987
designator D?
DC-DC 4.5V to 61V Synchronous Step Down Single-Out 0.8V to 61V 3A 16-Pin HTSSO; Manufacturer: STMicroelectronics; BOM1: HTSSOP-16 L7987; ValueBOM: L7987   STMicroelectronics; Value: L7987; Part Number: L7987; Package: HTSSOP-16; BOM2: HTSSOP-16 L7987
footprint HTSSOP-16
pins: 1, 2, 3, 4, 5, 6, 7, 8, 9, 10, 11, 12, 13, 14, 15, 16
text: Vin; *PWM; PG; LX; Vcc; BOOT; EN; SS; BIAS; SYNC; CMP; FSW; FB; ILIM; GND

## LD3985M33R
designator D?
LD3985M33R 150mA Ultra low drop and low noise BiCMOS voltage regulators; Manufacturer: STMicroelectronics; BOM1: SOT23-5 LD3985M33R; ValueBOM: LD3985M33R   STMicroelectronics; Value: LD3985M33R; Part Number: LD3985M33R; Package: SOT23-5; BOM2: SOT23-5 LD3985M33R
footprint SOT23-5N (SOT23, 5-Leads, Body 2.9x1.3mm, Pitch 0.95mm, Lead Span 2.5mm, IPC Medium Density)
pins: 1, 2, 3, 4, 5
text: *STU; V in; Vout; GND; OFF; ADJ

## LIS3DH
designator D?
Accelerometer X, Y, Z Axis A±2g, 4g, 8g, 16g 0.5Hz ~ 625Hz 16-LGA (3x3); Manufacturer: STMicroelectronics; BOM1: LGA-16; ValueBOM: LIS3DH   STMicroelectronics; Value: LIS3DH; Part Number: LIS3DH; Package: LGA-16; BOM2: LGA-16
footprint LGA-16
pins: 1 VDD_IO, 2 NC, 3 NC, 4 SCL/SPC, 5 GND, 6 SDA/SDI, 7 SDO/SA0, 8 CS, 9 INT2, 10 RES, 11 INT1, 12 GND, 13 ADC3, 14 VDD, 15 ADC2, 16 ADC1

## LIS3MDLTR
designator D?
Manufacturer: STMicroelectronics; BOM1: VFLGA-12 LIS3MDLTR; ValueBOM: LIS3MDLTR   STMicroelectronics; Value: LIS3MDLTR; Part Number: LIS3MDLTR; Package: VFLGA-12; BOM2: VFLGA-12 LIS3MDLTR
footprint LSM6DS3TR
pins: 1 SDO/SA0, 2 SDX, 3 SCX, 4 INT1, 5 VDDIO, 6 GND_1, 7 GND_2, 8 VDD, 9 INT2, 10 NC_1, 11 NC_2, 12 CS, 13 SCL, 14 SDA

## LM217L
designator D?
Low current 1.2 to 37 V adjustable voltage regulators; Vendor Code: LM217L; Part Number: LM217L; Value: LM217L
footprint STD_SOIC-8
pins: 1 Vin, 2 Vout, 3 Vout, 4 ADJ, 5 NC, 6 Vout, 7 Vout, 8 NC

## LM317MDT
designator DA?  value LM1117MPX-3.3  (hidden comment: LM317MDT)
Three-Pin Adjustable Regulator; Vendor Code: *
footprint TO-252-3/DPAK
pins: 1 ADJ "Вход инверсный", 3 Vin "Вход неинверсный", 4 Vout "Выход"
text: *ST

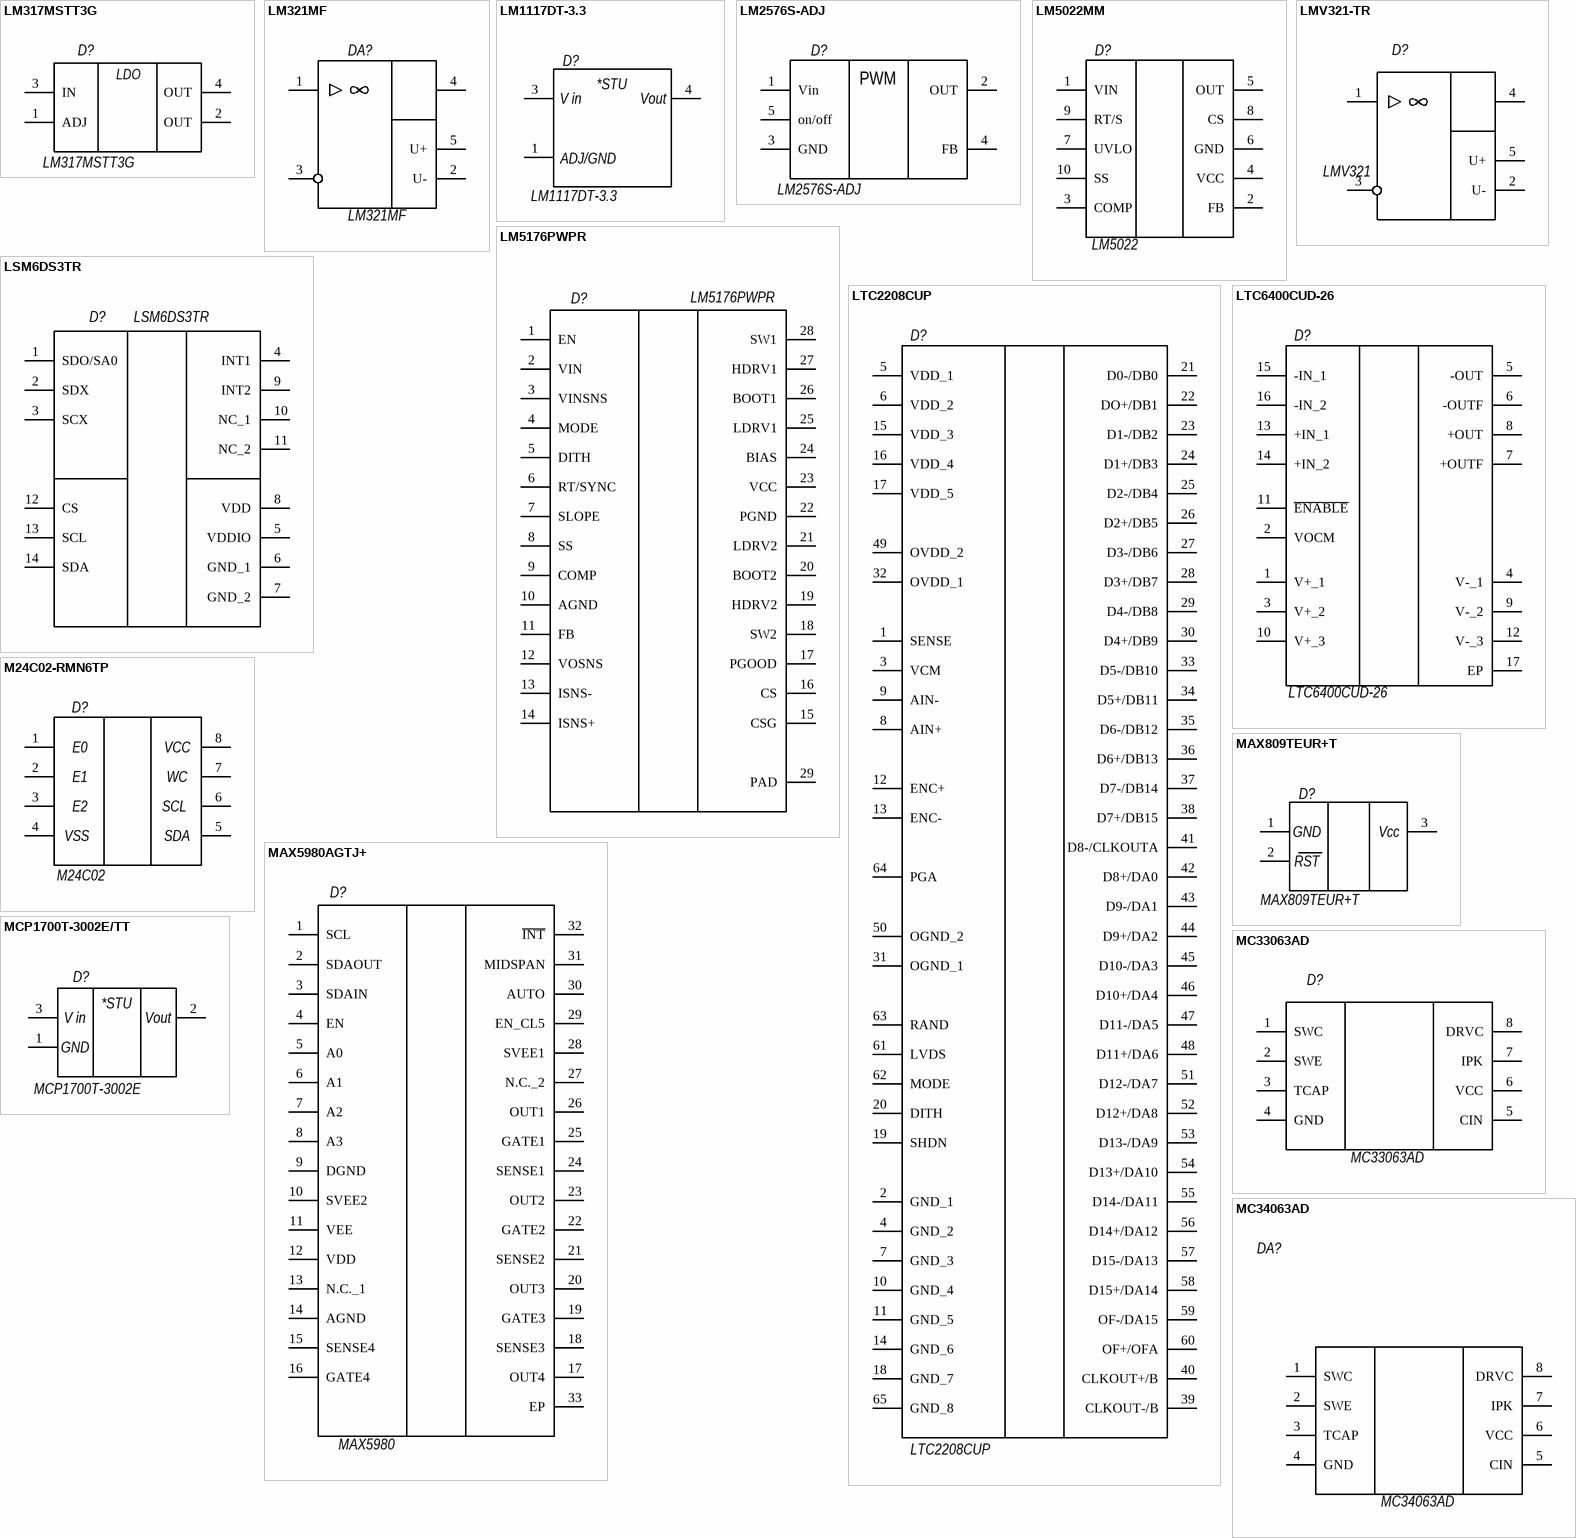
[diagram p6: symbols LM317MSTT3G to MCP1700T-3002E/TT]

## LM317MSTT3G
designator D?
LM317MSTT3G: adj. 1.2–37V, 500mA, SOT-223, 40V input.; Manufacturer: UMW; BOM1: SOT-223-4 LM317MSTT3G; ValueBOM: LM317MSTT3G   UMW; Part Number: LM317MSTT3G; Value: LM317MSTT3G; Package: SOT-223-4; BOM2: SOT-223-4 LM317MSTT3G
footprint STD_SOT-223-4
pins: 1 ADJ, 2 OUT, 3 IN, 4 OUT
text: LDO

## LM321MF
designator DA?
Low Power Single Operational Amplifier; Vendor Code: *; Value: LM321MF
footprint SOT23-5
pins: 1 IN+ "Вход неинверсный", 2 U- "Вывод питания от источника отрицательного напряжения", 3 IN- "Вход инверсный", 4 OUT "Выход", 5 U+ "Вывод питания от источника положительного напряжения"

## LM1117DT-3.3
designator D?
LM1117DT-3.3 800-mA, Low-Dropout Linear Regulator; Manufacturer: Texas Instruments; BOM1: TO-252(DPAK) LD3985M33R; ValueBOM: LM1117DT-3.3   Texas Instruments; Value: LM1117DT-3.3; Part Number: LM1117DT-3.3; Package: TO-252(DPAK); BOM2: TO-252(DPAK) LD3985M33R
footprint TO-252-3/DPAK
pins: 1, 3, 4
text: *STU; V in; Vout; ADJ/GND

## LM2576S-ADJ
designator D?
Manufacturer: National Semiconductor; Part Number: LM2576S-ADJ; Value: LM2576S-ADJ; Package: TO-263; Temperature Range: -40…+85°C
footprint TO263-5L (D2-PAK, 6-Pads, Body 7,35x8,36mm (max), IPC Medium Density)
pins: 1 Vin, 2 OUT, 3 GND, 4 FB, 5 on/off
text: PWM

## LM5022MM
designator D?, comment LM5022
6-60V Wide Vin, Current Mode Boost, SEPIC and Flyback Controller; Part Number: LM5022MM; Manufacturer: Texas Instruments; BOM1: VSSOP-10 LM5022MM; ValueBOM: LM5022MM   Texas Instruments; Value: LM5022; Package: VSSOP-10; BOM2: VSSOP-10 LM5022MM
footprint SOP50P490X110-10N
pins: 1 VIN, 2 FB, 3 COMP, 4 VCC, 5 OUT, 6 GND, 7 UVLO, 8 CS, 9 RT/S, 10 SS

## LM5176PWPR
designator D?
LM5176 55-V Wide VIN Synchronous 4-switch Buck-boost Controller; Manufacturer: TI; BOM1: HTSSOP-28 LM5176PWPR; ValueBOM: LM5176PWPR   TI; Value: LM5176PWPR; Part Number: LM5176PWPR; Package: HTSSOP-28; BOM2: HTSSOP-28 LM5176PWPR
footprint TSSOP-28
pins: 1 EN, 2 VIN, 3 VINSNS, 4 MODE, 5 DITH, 6 RT/SYNC, 7 SLOPE, 8 SS, 9 COMP, 10 AGND, 11 FB, 12 VOSNS, 13 ISNS-, 14 ISNS+, 15 CSG, 16 CS, 17 PGOOD, 18 SW2, 19 HDRV2, 20 BOOT2, 21 LDRV2, 22 PGND, 23 VCC, 24 BIAS, 25 LDRV1, 26 BOOT1, 27 HDRV1, 28 SW1, 29 PAD

## LMV321-TR
designator D?, comment LMV321
SOT23-5 1MHZ CMOS Rail-to-Rail IO; Part Number: LMV321-TR; Manufacturer: Gainsil; Value: LMV321; Package: SOT23-5; Temperature Range: -40…+125°C
footprint SOT23-5
pins: 1 IN+ "Вход неинверсный", 2 U- "Вывод питания от источника отрицательного напряжения", 3 IN- "Вход инверсный", 4 OUT "Выход", 5 U+ "Вывод питания от источника положительного напряжения"

## LSM6DS3TR
designator D?
iNEMO inertial module: always-on 3D accelerometer and 3D gyroscope LGA-14L (2.5 x 3 x 0.83 mm); Manufacturer: STMicroelectronics; BOM1: LGA-14L LSM6DS3TR; ValueBOM: LSM6DS3TR   STMicroelectronics; Value: LSM6DS3TR; Part Number: LSM6DS3TR; Package: LGA-14L; BOM2: LGA-14L LSM6DS3TR
footprint LSM6DS3TR
pins: 1 SDO/SA0, 2 SDX, 3 SCX, 4 INT1, 5 VDDIO, 6 GND_1, 7 GND_2, 8 VDD, 9 INT2, 10 NC_1, 11 NC_2, 12 CS, 13 SCL, 14 SDA

## LTC2208CUP
designator D?
16-Bit, 130Msps ADC; Manufacturer: LINEAR; BOM1: QFN-64 LTC2208CUP; ValueBOM: LTC2208CUP   LINEAR; Package: QFN-64; Value: LTC2208CUP; Part Number: LTC2208CUP; BOM2: QFN-64 LTC2208CUP
footprint QFN50P900X900X80-65N
pins: 1 SENSE, 2 GND_1, 3 VCM, 4 GND_2, 5 VDD_1, 6 VDD_2, 7 GND_3, 8 AIN+, 9 AIN-, 10 GND_4, 11 GND_5, 12 ENC+, 13 ENC-, 14 GND_6, 15 VDD_3, 16 VDD_4, 17 VDD_5, 18 GND_7, 19 SHDN, 20 DITH, 21 D0-/DB0, 22 DO+/DB1, 23 D1-/DB2, 24 D1+/DB3, 25 D2-/DB4, 26 D2+/DB5, 27 D3-/DB6, 28 D3+/DB7, 29 D4-/DB8, 30 D4+/DB9, 31 OGND_1, 32 OVDD_1, 33 D5-/DB10, 34 D5+/DB11, 35 D6-/DB12, 36 D6+/DB13, 37 D7-/DB14, 38 D7+/DB15, 39 CLKOUT-/B, 40 CLKOUT+/B, 41 D8-/CLKOUTA, 42 D8+/DA0, 43 D9-/DA1, 44 D9+/DA2, 45 D10-/DA3, 46 D10+/DA4, 47 D11-/DA5, 48 D11+/DA6, 49 OVDD_2, 50 OGND_2, 51 D12-/DA7, 52 D12+/DA8, 53 D13-/DA9, 54 D13+/DA10, 55 D14-/DA11, 56 D14+/DA12, 57 D15-/DA13, 58 D15+/DA14, 59 OF-/DA15, 60 OF+/OFA, 61 LVDS, 62 MODE, 63 RAND, 64 PGA, 65 GND_8

## LTC6400CUD-26
designator D?
1.9GHz Low Noise, / Low Distortion Differential / ADC Driver for DC-300MHz; Manufacturer: LINEAR; BOM1: QFN-16 LTC6400CUD-26; ValueBOM: LTC6400CUD-26   LINEAR; Package: QFN-16; Value: LTC6400CUD-26; Part Number: LTC6400CUD-26; BOM2: QFN-16 LTC6400CUD-26
footprint QFN50P300X300X80-17N-D
pins: 1 V+_1, 2 VOCM, 3 V+_2, 4 V-_1, 5 -OUT, 6 -OUTF, 7 +OUTF, 8 +OUT, 9 V-_2, 10 V+_3, 11 ~{ENABLE}, 12 V-_3, 13 +IN_1, 14 +IN_2, 15 -IN_1, 16 -IN_2, 17 EP

## M24C02-RMN6TP
designator D?, comment M24C02
M24C02-RMN6TP, 2-Kbit serial I²C bus EEPROMs; Manufacturer: ST Microelectronics; BOM1: SOIC-8 M24C02-RMN6TP; ValueBOM: M24C02-RMN6TP   ST Microelectronics; Value: M24C02; Part Number: M24C02-RMN6TP; Package: SOIC-8; BOM2: SOIC-8 M24C02-RMN6TP
footprint SOIC-8L (SOIC127P600X175-8N)
footprint SOIC-8N (SOIC127P600X175-8N)
pins: 1, 2, 3, 4, 5, 6, 7, 8
text: E0; VCC; E1; WC; E2; SCL; VSS; SDA

## MAX809TEUR+T
designator D?
Microprocessor Supervisory / Circuit in 3-Pin SOT-23; Manufacturer: Maxim Integrated; BOM1: SOT23-3 MAX809TEUR+T; ValueBOM: MAX809TEUR+T   Maxim Integrated; Value: MAX809TEUR+T; Part Number: MAX809TEUR+T; Package: SOT23-3; BOM2: SOT23-3 MAX809TEUR+T
footprint SOT23-3N (SOT23, 3-Leads, Body 2.9x1.3mm, Pitch 0.95mm, Lead Span 2.5mm, IPC Medium Density)
footprint SOT23-3M (SOT23, 3-Leads, Body 2.9x1.3mm, Pitch 0.95mm, Lead Span 2.5mm, IPC Low Density)
footprint SOT23-3L (SOT23, 3-Leads, Body 2.9x1.3mm, Pitch 0.95mm, Lead Span 2.5mm, IPC High Density)
pins: 1, 2, 3
text: GND; Vcc; RST

## MAX5980AGTJ+
designator D?, comment MAX5980
IEEE 802.3af/at-Compliant PSE Circuit Four RJ45 10/100/1000BASE-TX Ethernet / Network Input Ports; Manufacturer: Analog Devices; Part Number: MAX5980AGTJ+; BOM1: 32 TQFN-EP MAX5980AGTJ+; ValueBOM: MAX5980AGTJ+   Analog Devices; Package: 32 TQFN-EP; Value: MAX5980; BOM2: 32 TQFN-EP MAX5980AGTJ+
footprint QFN50P500X500X80-33N
pins: 1 SCL, 2 SDAOUT, 3 SDAIN, 4 EN, 5 A0, 6 A1, 7 A2, 8 A3, 9 DGND, 10 SVEE2, 11 VEE, 12 VDD, 13 N.C._1, 14 AGND, 15 SENSE4, 16 GATE4, 17 OUT4, 18 SENSE3, 19 GATE3, 20 OUT3, 21 SENSE2, 22 GATE2, 23 OUT2, 24 SENSE1, 25 GATE1, 26 OUT1, 27 N.C._2, 28 SVEE1, 29 EN_CL5, 30 AUTO, 31 MIDSPAN, 32 ~{INT}, 33 EP

## MC33063AD
designator D?
1.5 A, Step−Up/Down/ Inverting Switching Regulators; Vendor Code: MC33063AD; Value: MC33063AD
footprint STD_SOIC-8
pins: 1 SWC, 2 SWE, 3 TCAP, 4 GND, 5 CIN, 6 VCC, 7 IPK, 8 DRVC

## MC34063AD
designator DA?
1.5 A, Step−Up/Down/ Inverting Switching Regulators; Vendor Code: *; Value: MC34063AD
footprint STD_SOIC-8
pins: 1 SWC, 2 SWE, 3 TCAP, 4 GND, 5 CIN, 6 VCC, 7 IPK, 8 DRVC

## MCP1700T-3002E/TT
designator D?, comment MCP1700T-3002E
LDO voltage regulator, +3V, 250mA SOT-23-3; Part Number: MCP1700T-3002E/TT; Manufacturer: Microchip Technology; BOM1: SOT23-3 MCP1700T-3002E/TT; ValueBOM: MCP1700T-3002E/TT   Microchip Technology; Value: MCP1700T-3002E; Package: SOT23-3; BOM2: SOT23-3 MCP1700T-3002E/TT
footprint SOT23-3L (SOT23, 3-Leads, Body 2.9x1.3mm, Pitch 0.95mm, Lead Span 2.5mm, IPC High Density)
footprint SOT23-3M (SOT23, 3-Leads, Body 2.9x1.3mm, Pitch 0.95mm, Lead Span 2.5mm, IPC Low Density)
footprint SOT23-3N (SOT23, 3-Leads, Body 2.9x1.3mm, Pitch 0.95mm, Lead Span 2.5mm, IPC Medium Density)
pins: 1, 2, 3
text: *STU; V in; Vout; GND

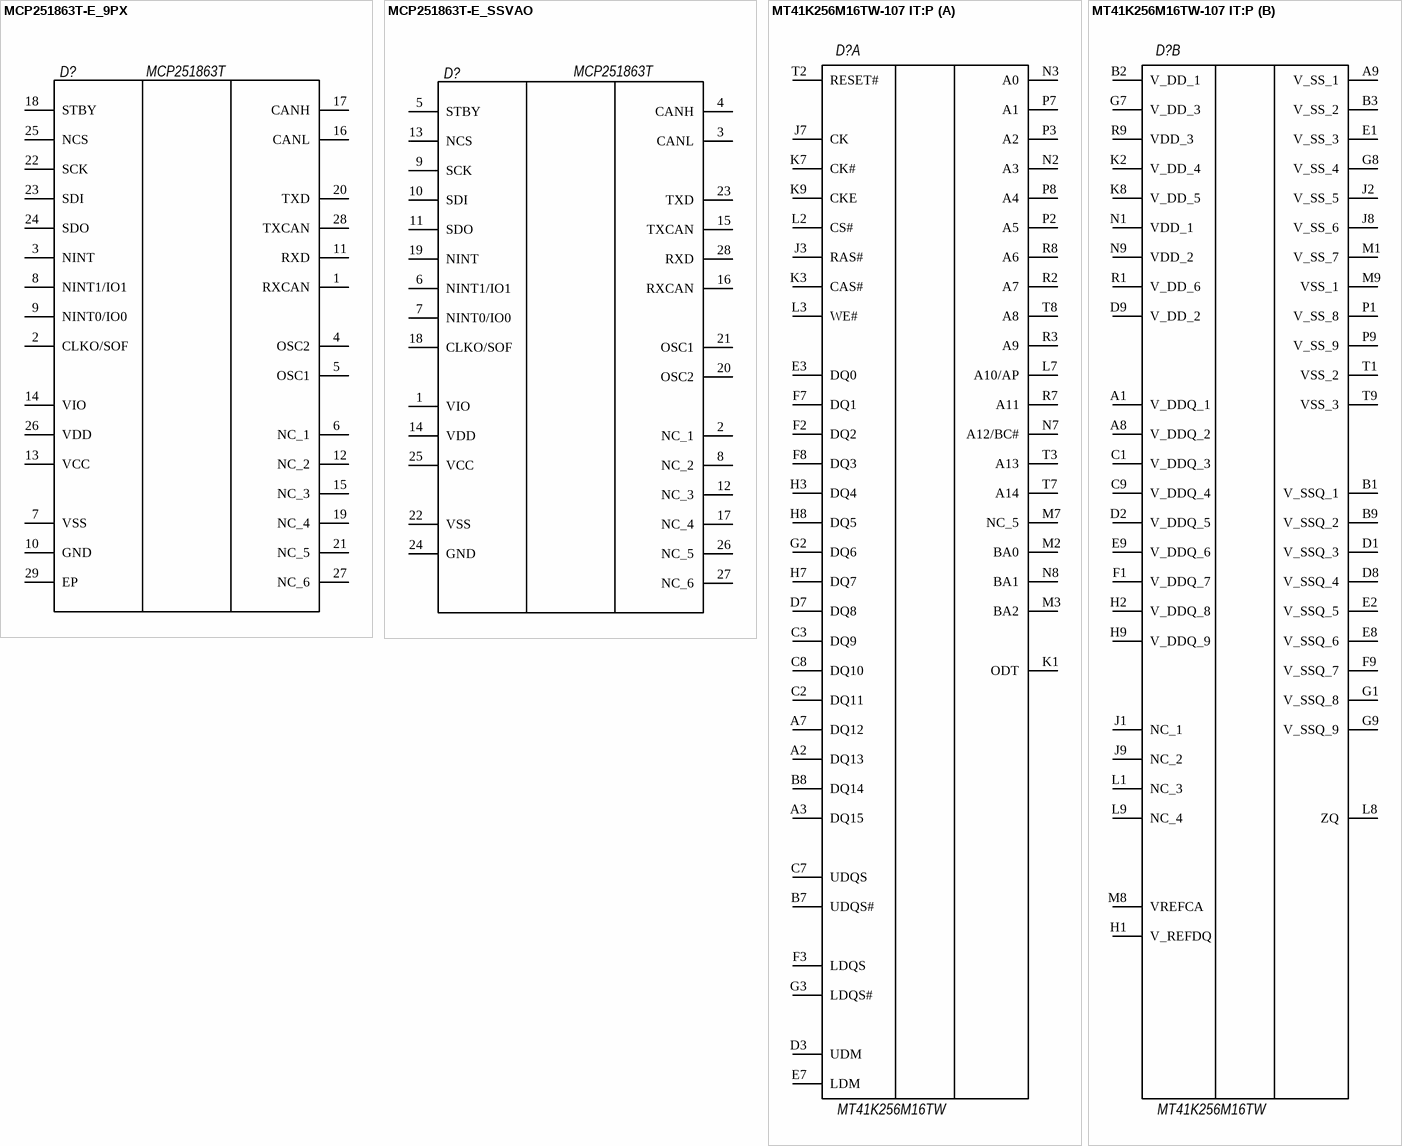
[diagram p7: symbols MCP251863T-E_9PX to MT41K256M16TW-107 IT:P]

## MCP251863T-E_9PX
designator D?, comment MCP251863T
MCP251863T-E/9PX – CAN Controller CAN 2.0 SPI Interface 28-VQFN (5x5) from Microchip Technology; Part Number: MCP251863T-E_9PX; BOM1: 28-VQFN MCP251863T-E_9PX; ValueBOM: MCP251863T-E_9PX   Microchip; Value: MCP251863T; Manufacturer: Microchip; Package: 28-VQFN; BOM2: 28-VQFN MCP251863T-E_9PX
footprint QFN50P500X500X90-29N-D
pins: 1 RXCAN, 2 CLKO/SOF, 3 NINT, 4 OSC2, 5 OSC1, 6 NC_1, 7 VSS, 8 NINT1/IO1, 9 NINT0/IO0, 10 GND, 11 RXD, 12 NC_2, 13 VCC, 14 VIO, 15 NC_3, 16 CANL, 17 CANH, 18 STBY, 19 NC_4, 20 TXD, 21 NC_5, 22 SCK, 23 SDI, 24 SDO, 25 NCS, 26 VDD, 27 NC_6, 28 TXCAN, 29 EP

## MCP251863T-E_SSVAO
designator D?, comment MCP251863T
MCP251863T-E/SSVAO – CAN Controller CAN 2.0 SPI Interface 28-SSOP from Microchip Technology; Part Number: MCP251863T-E_SSVAO; BOM1: SSOP-28 MCP251863T-E_SSVAO; ValueBOM: MCP251863T-E_SSVAO   Microchip; Value: MCP251863T; Manufacturer: Microchip; Package: SSOP-28; BOM2: SSOP-28 MCP251863T-E_SSVAO
footprint SOP65P780X200-28N
pins: 1 VIO, 2 NC_1, 3 CANL, 4 CANH, 5 STBY, 6 NINT1/IO1, 7 NINT0/IO0, 8 NC_2, 9 SCK, 10 SDI, 11 SDO, 12 NC_3, 13 NCS, 14 VDD, 15 TXCAN, 16 RXCAN, 17 NC_4, 18 CLKO/SOF, 19 NINT, 20 OSC2, 21 OSC1, 22 VSS, 23 TXD, 24 GND, 25 VCC, 26 NC_5, 27 NC_6, 28 RXD

## MT41K256M16TW-107 IT:P
designator D?, comment MT41K256M16TW
BGA96C80P9X16 MT41K256M16TW-107 IT:P; Manufacturer: Micron; ValueBOM: MT41K256M16TW-107 IT:P   Micron; Part Number: MT41K256M16TW-107 IT:P; Package: BGA96C80P9X16_800X1400X120; Value: MT41K256M16TW; BOM1: BGA96C80P9X16 MT41K256M16TW-107 IT:P; BOM2: BGA96C80P9X16 MT41K256M16TW-107 IT:P
footprint BGA96C80P9X16_800X1400X120
part A pins: A2 DQ13, A3 DQ15, A7 DQ12, B7 UDQS#, B8 DQ14, C2 DQ11, C3 DQ9, C7 UDQS, C8 DQ10, D3 UDM, D7 DQ8, E3 DQ0, E7 LDM, F2 DQ2, F3 LDQS, F7 DQ1, F8 DQ3, G2 DQ6, G3 LDQS#, H3 DQ4, H7 DQ7, H8 DQ5, J3 RAS#, J7 CK, K1 ODT, K3 CAS#, K7 CK#, K9 CKE, L2 CS#, L3 WE#, L7 A10/AP, M2 BA0, M3 BA2, M7 NC_5, N2 A3, N3 A0, N7 A12/BC#, N8 BA1, P2 A5, P3 A2, P7 A1, P8 A4, R2 A7, R3 A9, R7 A11, R8 A6, T2 RESET#, T3 A13, T7 A14, T8 A8
part B pins: A1 V_DDQ_1, A8 V_DDQ_2, A9 V_SS_1, B1 V_SSQ_1, B2 V_DD_1, B3 V_SS_2, B9 V_SSQ_2, C1 V_DDQ_3, C9 V_DDQ_4, D1 V_SSQ_3, D2 V_DDQ_5, D8 V_SSQ_4, D9 V_DD_2, E1 V_SS_3, E2 V_SSQ_5, E8 V_SSQ_6, E9 V_DDQ_6, F1 V_DDQ_7, F9 V_SSQ_7, G1 V_SSQ_8, G7 V_DD_3, G8 V_SS_4, G9 V_SSQ_9, H1 V_REFDQ, H2 V_DDQ_8, H9 V_DDQ_9, J1 NC_1, J2 V_SS_5, J8 V_SS_6, J9 NC_2, K2 V_DD_4, K8 V_DD_5, L1 NC_3, L8 ZQ, L9 NC_4, M1 V_SS_7, M8 VREFCA, M9 VSS_1, N1 VDD_1, N9 VDD_2, P1 V_SS_8, P9 V_SS_9, R1 V_DD_6, R9 VDD_3, T1 VSS_2, T9 VSS_3

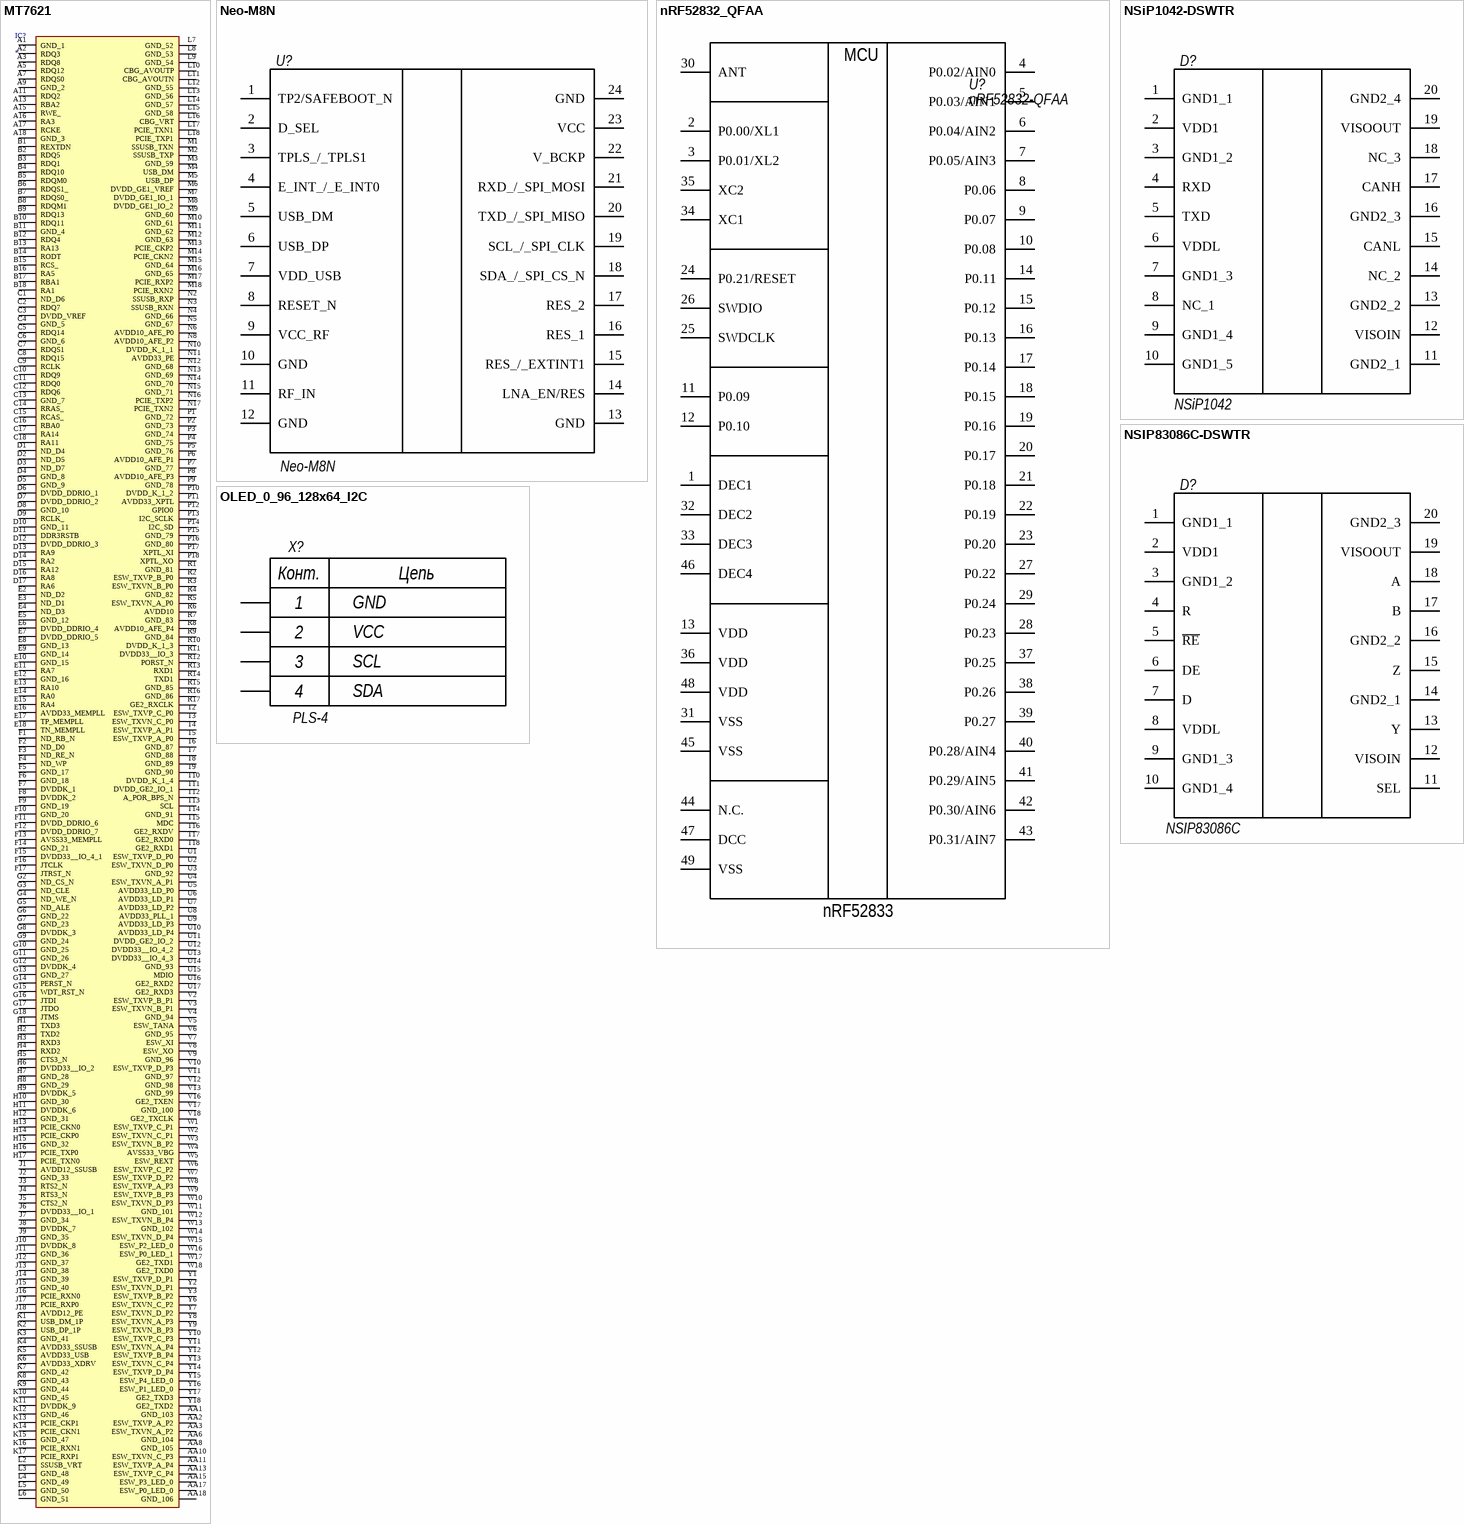
[diagram p8: symbols MT7621 to OLED_0_96_128x64_I2C]

## MT7621
designator IC?
Integrated Circuit; Manufacturer_Name: Mediatek; Manufacturer_Part_Number: MT7621; Datasheet Link: https://drive.google.com/file/d/1Y29uL-MYuhBYxWeb-zq8fHZ9bR_hnD8q/view; Height: 1.3mm
footprint BGA346C65P18X21_1170X1360X130
pins: A1 GND_1, A2 RDQ3, A3 RDQ8, A5 RDQ12, A7 RDQS0, A9 GND_2, A11 RDQ2, A13 RBA2, A15 RWE_, A16 RA3, A17 RCKE, A18 GND_3, AA1 GND_103, AA2 ESW_TXVP_A_P2, AA3 ESW_TXVN_A_P2, AA6 GND_104, AA8 GND_105, AA10 ESW_TXVN_C_P3, AA11 ESW_TXVP_A_P4, AA13 ESW_TXVP_C_P4, AA15 ESW_P3_LED_0, AA17 ESW_P0_LED_0, AA18 GND_106, B1 REXTDN, B2 RDQ5, B3 RDQ1, B4 RDQ10, B5 RDQM0, B6 RDQS1_, B7 RDQS0_, B8 RDQM1, B9 RDQ13, B10 RDQ11, B11 GND_4, B12 RDQ4, B13 RA13, B14 RODT, B15 RCS_, B16 RA5, B17 RBA1, B18 RA1, C1 ND_D6, C2 RDQ7, C3 DVDD_VREF, C4 GND_5, C5 RDQ14, C6 GND_6, C7 RDQS1, C8 RDQ15, C9 RCLK, C10 RDQ9, C11 RDQ0, C12 RDQ6, C13 GND_7, C14 RRAS_, C15 RCAS_, C16 RBA0, C17 RA14, C18 RA11, D1 ND_D4, D2 ND_D5, D3 ND_D7, D4 GND_8, D5 GND_9, D6 DVDD_DDRIO_1, D7 DVDD_DDRIO_2, D8 GND_10, D9 RCLK_, D10 GND_11, D11 DDR3RSTB, D12 DVDD_DDRIO_3, D13 RA9, D14 RA2, D15 RA12, D16 RA8, D17 RA6, E2 ND_D2, E3 ND_D1, E4 ND_D3, E5 GND_12, E6 DVDD_DDRIO_4, E7 DVDD_DDRIO_5, E8 GND_13, E9 GND_14, E10 GND_15, E11 RA7, E12 GND_16, E13 RA10, E14 RA0, E15 RA4, E16 AVDD33_MEMPLL, E17 TP_MEMPLL, E18 TN_MEMPLL, F1 ND_RB_N, F2 ND_D0, F3 ND_RE_N, F4 ND_WP, F5 GND_17, F6 GND_18, F7 DVDDK_1, F8 DVDDK_2, F9 GND_19, F10 GND_20, F11 DVDD_DDRIO_6, F12 DVDD_DDRIO_7, F13 AVSS33_MEMPLL, F14 GND_21, F15 DVDD33__IO_4_1, F16 JTCLK, F17 JTRST_N, G2 ND_CS_N, G3 ND_CLE, G4 ND_WE_N, G5 ND_ALE, G6 GND_22, G7 GND_23, G8 DVDDK_3, G9 GND_24, G10 GND_25, G11 GND_26, G12 DVDDK_4, G13 GND_27, G14 PERST_N, G15 WDT_RST_N, G16 JTDI, G17 JTDO, G18 JTMS, H1 TXD3, H2 TXD2, H3 RXD3, H4 RXD2, H5 CTS3_N, H6 DVDD33__IO_2, H7 GND_28, H8 GND_29, H9 DVDDK_5, H10 GND_30, H11 DVDDK_6, H12 GND_31, H13 PCIE_CKN0, H14 PCIE_CKP0, H15 GND_32, H16 PCIE_TXP0, H17 PCIE_TXN0, J1 AVDD12_SSUSB, J2 GND_33, J3 RTS2_N, J4 RTS3_N, J5 CTS2_N, J6 DVDD33__IO_1, J7 GND_34, J8 DVDDK_7, J9 GND_35, J10 DVDDK_8, J11 GND_36, J12 GND_37, J13 GND_38, J14 GND_39, J15 GND_40, J16 PCIE_RXN0, J17 PCIE_RXP0, J18 AVDD12_PE, K1 USB_DM_1P, K2 USB_DP_1P, K3 GND_41, K4 AVDD33_SSUSB, K5 AVDD33_USB, K6 AVDD33_XDRV, K7 GND_42, K8 GND_43, K9 GND_44, K10 GND_45, K11 DVDDK_9, K12 GND_46, K13 PCIE_CKP1, K14 PCIE_CKN1, K15 GND_47, K16 PCIE_RXN1, K17 PCIE_RXP1, L2 SSUSB_VRT, L3 GND_48, L4 GND_49, L5 GND_50, L6 GND_51, L7 GND_52, L8 GND_53, L9 GND_54, L10 CBG_AVOUTP, L11 CBG_AVOUTN, L12 GND_55, L13 GND_56, L14 GND_57, L15 GND_58, L16 CBG_VRT, L17 PCIE_TXN1, L18 PCIE_TXP1, M1 SSUSB_TXN, M2 SSUSB_TXP, M3 GND_59, M4 USB_DM, M5 USB_DP, M6 DVDD_GE1_VREF, M7 DVDD_GE1_IO_1, M8 DVDD_GE1_IO_2, M9 GND_60, M10 GND_61, M11 GND_62, M12 GND_63, M13 PCIE_CKP2, M14 PCIE_CKN2, M15 GND_64, M16 GND_65, M17 PCIE_RXP2, M18 PCIE_RXN2, N2 SSUSB_RXP, N3 SSUSB_RXN, N4 GND_66, N5 GND_67, N6 AVDD10_AFE_P0, N8 AVDD10_AFE_P2, N10 DVDD_K_1_1, N11 AVDD33_PE, N12 GND_68, N13 GND_69, N14 GND_70, N15 GND_71, N16 PCIE_TXP2, N17 PCIE_TXN2, P1 GND_72, P2 GND_73, P3 GND_74, P4 GND_75, P5 GND_76, P6 AVDD10_AFE_P1, P7 GND_77, P8 AVDD10_AFE_P3, P9 GND_78, P10 DVDD_K_1_2, P11 AVDD33_XPTL, P12 GPIO0, P13 I2C_SCLK, P14 I2C_SD, P15 GND_79, P16 GND_80, P17 XPTL_XI, P18 XPTL_XO, R1 GND_81, R2 ESW_TXVP_B_P0, R3 ESW_TXVN_B_P0, R4 GND_82, R5 ESW_TXVN_A_P0, R6 AVDD10, R7 GND_83, R8 AVDD10_AFE_P4, R9 GND_84, R10 DVDD_K_1_3, R11 DVDD33__IO_3, R12 PORST_N, R13 RXD1, R14 TXD1, R15 GND_85, R16 GND_86, R17 GE2_RXCLK, T2 ESW_TXVP_C_P0, T3 ESW_TXVN_C_P0, T4 ESW_TXVP_A_P1, T5 ESW_TXVP_A_P0, T6 GND_87, T7 GND_88, T8 GND_89, T9 GND_90, T10 DVDD_K_1_4, T11 DVDD_GE2_IO_1, T12 A_POR_BPS_N, T13 SCL, T14 GND_91, T15 MDC, T16 GE2_RXDV, T17 GE2_RXD0, T18 GE2_RXD1, U1 ESW_TXVP_D_P0, U2 ESW_TXVN_D_P0, U3 GND_92, U4 ESW_TXVN_A_P1, U5 AVDD33_LD_P0, U6 AVDD33_LD_P1, U7 AVDD33_LD_P2, U8 AVDD33_PLL_1, U9 AVDD33_LD_P3, U10 AVDD33_LD_P4, U11 DVDD_GE2_IO_2, U12 DVDD33__IO_4_2, U13 DVDD33__IO_4_3, U14 GND_93, U15 MDIO, U16 GE2_RXD2, U17 GE2_RXD3, V2 ESW_TXVP_B_P1, V3 ESW_TXVN_B_P1, V4 GND_94, V5 ESW_TANA, V6 GND_95, V7 ESW_XI, V8 ESW_XO, V9 GND_96, V10 ESW_TXVP_D_P3, V11 GND_97, V12 GND_98, V13 GND_99, V16 GE2_TXEN, V17 GND_100, V18 GE2_TXCLK, W1 ESW_TXVP_C_P1, W2 ESW_TXVN_C_P1, W3 ESW_TXVN_B_P2, W4 AVSS33_VBG, W5 ESW_REXT, W6 ESW_TXVP_C_P2, W7 ESW_TXVP_D_P2, W8 ESW_TXVP_A_P3, W9 ESW_TXVP_B_P3, W10 ESW_TXVN_D_P3, W11 GND_101, W12 ESW_TXVN_B_P4, W13 GND_102, W14 ESW_TXVN_D_P4, W15 ESW_P2_LED_0, W16 ESW_P0_LED_1, W17 GE2_TXD1, W18 GE2_TXD0, Y1 ESW_TXVP_D_P1, Y2 ESW_TXVN_D_P1, Y3 ESW_TXVP_B_P2, Y6 ESW_TXVN_C_P2, Y7 ESW_TXVN_D_P2, Y8 ESW_TXVN_A_P3, Y9 ESW_TXVN_B_P3, Y10 ESW_TXVP_C_P3, Y11 ESW_TXVN_A_P4, Y12 ESW_TXVP_B_P4, Y13 ESW_TXVN_C_P4, Y14 ESW_TXVP_D_P4, Y15 ESW_P4_LED_0, Y16 ESW_P1_LED_0, Y17 GE2_TXD3, Y18 GE2_TXD2

## Neo-M8N
designator U?
The U-blox Neo-M8N GNSS module.; ValueBOM: Neo-M8N   U-blox; Value: Neo-M8N; Part Number: Neo-M8N; Manufacturer: U-blox; Package: Neo-M8N; BOM1: U-blox Neo-M8N; BOM2: U-blox Neo-M8N
footprint NEO-M8T
pins: 1 TP2/SAFEBOOT_N, 2 D_SEL, 3 TPLS_/_TPLS1, 4 E_INT_/_E_INT0, 5 USB_DM, 6 USB_DP, 7 VDD_USB, 8 RESET_N, 9 VCC_RF, 10 GND, 11 RF_IN, 12 GND, 13 GND, 14 LNA_EN/RES, 15 RES_/_EXTINT1, 16 RES_1, 17 RES_2, 18 SDA_/_SPI_CS_N, 19 SCL_/_SPI_CLK, 20 TXD_/_SPI_MISO, 21 RXD_/_SPI_MOSI, 22 V_BCKP, 23 VCC, 24 GND

## nRF52832_QFAA
designator U?, comment nRF52832-QFAA
Multi-protocol Bluetooth Low Energy and 2.4GHz proprietary system-on-chip; Manufacturer: Nordic Semiconductor; Artikkelnr Noca: N.A.; Part Number: nRF52832-QFAA; Manufacturer Part Number: nRF52832-QFAA; Datasheet: *; LatestRevisionDate: 2014-11-26; Pin Count: 48; Publisher: Nordic Semiconductor; Published: 2014-11-26; Value: nRF52832-QFAA; Note: *; Supplier: Nordic Semiconductor; Supplier part number: *; 2nd source Supplier: *; 2nd source part number: *; Footprint Doc: QFN-48; Artikkelnr Simpro: N.A.
footprint QFN40P600X600X90-48N
pins: 1 DEC1, 2 P0.00/XL1, 3 P0.01/XL2, 4 P0.02/AIN0, 5 P0.03/AIN1, 6 P0.04/AIN2, 7 P0.05/AIN3, 8 P0.06, 9 P0.07, 10 P0.08, 11 P0.09, 12 P0.10, 13 VDD, 14 P0.11, 15 P0.12, 16 P0.13, 17 P0.14, 18 P0.15, 19 P0.16, 20 P0.17, 21 P0.18, 22 P0.19, 23 P0.20, 24 P0.21/RESET, 25 SWDCLK, 26 SWDIO, 27 P0.22, 28 P0.23, 29 P0.24, 30 ANT, 31 VSS, 32 DEC2, 33 DEC3, 34 XC1, 35 XC2, 36 VDD, 37 P0.25, 38 P0.26, 39 P0.27, 40 P0.28/AIN4, 41 P0.29/AIN5, 42 P0.30/AIN6, 43 P0.31/AIN7, 44 N.C., 45 VSS, 46 DEC4, 47 DCC, 48 VDD, 49 VSS
text: MCU; nRF52833

## NSiP1042-DSWTR
designator D?, comment NSiP1042
Signal Isolated CAN Transceiver with Integrated DC to DC Converter; Part Number: NSiP1042-DSWTR; Manufacturer: NOVOSENSE; BOM1: SOW20 NSiP1042-DSWTR; ValueBOM: NSiP1042-DSWTR   NOVOSENSE; Value: NSiP1042; Package: SOW20; BOM2: SOW20 NSiP1042-DSWTR
footprint SOIC127P1032X265-20N
pins: 1 GND1_1, 2 VDD1, 3 GND1_2, 4 RXD, 5 TXD, 6 VDDL, 7 GND1_3, 8 NC_1, 9 GND1_4, 10 GND1_5, 11 GND2_1, 12 VISOIN, 13 GND2_2, 14 NC_2, 15 CANL, 16 GND2_3, 17 CANH, 18 NC_3, 19 VISOOUT, 20 GND2_4

## NSIP83086C-DSWTR
designator D?, comment NSIP83086C
Signal Isolated RS485 Transceiver with Integrated DC to DC Converter; Part Number: NSIP83086C-DSWTR; Manufacturer: NOVOSENSE; BOM1: SOW20 NSIP83086C-DSWTR; ValueBOM: NSIP83086C-DSWTR   NOVOSENSE; Value: NSIP83086C; Package: SOW20; BOM2: SOW20 NSIP83086C-DSWTR
footprint SOIC127P1032X265-20N
pins: 1 GND1_1, 2 VDD1, 3 GND1_2, 4 R, 5 ~{RE}, 6 DE, 7 D, 8 VDDL, 9 GND1_3, 10 GND1_4, 11 SEL, 12 VISOIN, 13 Y, 14 GND2_1, 15 Z, 16 GND2_2, 17 B, 18 A, 19 VISOOUT, 20 GND2_3

## OLED_0_96_128x64_I2C
designator X?, comment PLS-4
OLED display, 128x64 pixels, 0.96. 4-pin connector. Resolution: 128 x 64. Interfaces: I2C IIC. Display color: white.; Part Number: OLED_0_96_128x64_I2C; Manufacturer: Connfly; BOM1: 2.54mm PLS-4 OLED_0_96_128x64_I2C; ValueBOM: OLED_0_96_128x64_I2C   Connfly; Value: PLS-4; Package: 2.54mm PLS-4 OLED_0_96_128x64_I2C; BOM2: 2.54mm PLS-4 OLED_0_96_128x64_I2C
footprint MODULE_OLED096-636 V1
footprint MODULE_OLED096-636 V2
pins: 1, 2, 3, 4
text: Конт.; Цепь; GND; VCC; SCL; SDA

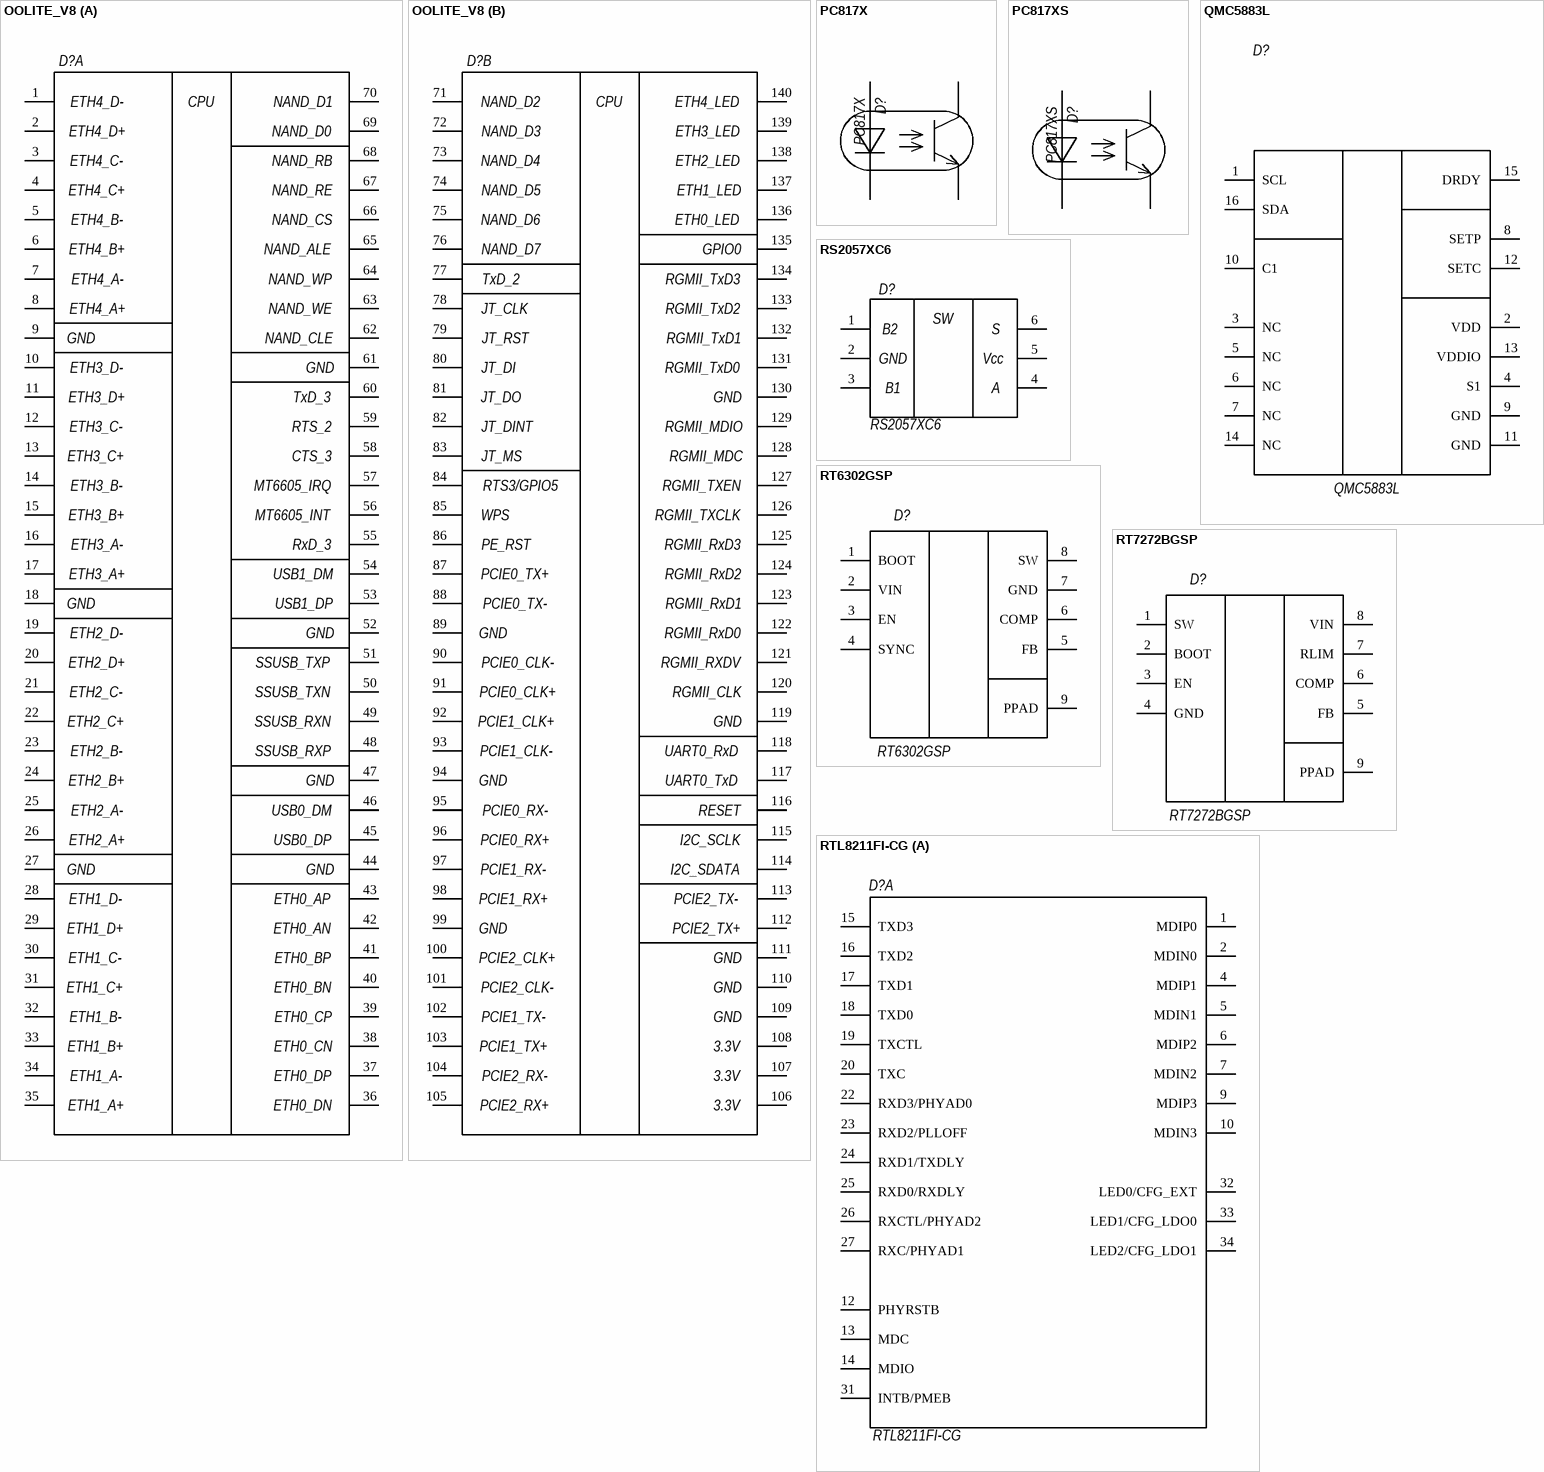
[diagram p9: symbols OOLITE_V8 to RTL8211FI-CG]

## OOLITE_V8
designator D?  (value not drawn)
OoliteV8.0 which intergrates MT7621AN Soc，DDR2, SPI Flash in one 50*50mm; Manufacturer: GainStrong; ValueBOM: OOLITE_V8   GainStrong; Value: OOLITE_V8; BOM1: OOLITE_V8; BOM2: OOLITE_V8; Part Number: OOLITE_V8; Package: OOLITE_V8
footprint OOLITE_V8
part A pins: 1, 2, 3, 4, 5, 6, 7, 8, 9, 10, 11, 12, 13, 14, 15, 16, 17, 18, 19, 20, 21, 22, 23, 24, 25, 26, 27, 28, 29, 30, 31, 32, 33, 34, 35, 36, 37, 38, 39, 40, 41, 42, 43, 44, 45, 46, 47, 48, 49, 50, 51, 52, 53, 54, 55, 56, 57, 58, 59, 60, 61, 62, 63, 64, 65, 66, 67, 68, 69, 70
part B pins: 71, 72, 73, 74, 75, 76, 77, 78, 79, 80, 81, 82, 83, 84, 85, 86, 87, 88, 89, 90, 91, 92, 93, 94, 95, 96, 97, 98, 99, 100, 101, 102, 103, 104, 105, 106, 107, 108, 109, 110, 111, 112, 113, 114, 115, 116, 117, 118, 119, 120, 121, 122, 123, 124, 125, 126, 127, 128, 129, 130, 131, 132, 133, 134, 135, 136, 137, 138, 139, 140
part A text: ETH4_D-; CPU; NAND_D1; ETH4_D+; NAND_D0; ETH4_C-; NAND_RB; ETH4_C+; NAND_RE; ETH4_B-; NAND_CS; ETH4_B+; NAND_ALE; ETH4_A-; NAND_WP; ETH4_A+; NAND_WE; GND; NAND_CLE; ETH3_D-; ETH3_D+; TxD_3; ETH3_C-; RTS_2; ETH3_C+; CTS_3; ETH3_B-; MT6605_IRQ; ETH3_B+; MT6605_INT; ETH3_A-; RxD_3; ETH3_A+; USB1_DM; USB1_DP; ETH2_D-; ETH2_D+; SSUSB_TXP; ETH2_C-; SSUSB_TXN; ETH2_C+; SSUSB_RXN; ETH2_B-; SSUSB_RXP; ETH2_B+; ETH2_A-; USB0_DM; ETH2_A+; USB0_DP; ETH1_D-; ETH0_AP; ETH1_D+; ETH0_AN; ETH1_C-; ETH0_BP; ETH1_C+; ETH0_BN; ETH1_B-; ETH0_CP; ETH1_B+; ETH0_CN; ETH1_A-; ETH0_DP; ETH1_A+; ETH0_DN
part B text: NAND_D2; CPU; ETH4_LED; NAND_D3; ETH3_LED; NAND_D4; ETH2_LED; NAND_D5; ETH1_LED; NAND_D6; ETH0_LED; NAND_D7; GPIO0; TxD_2; RGMII_TxD3; JT_CLK; RGMII_TxD2; JT_RST; RGMII_TxD1; JT_DI; RGMII_TxD0; JT_DO; GND; JT_DINT; RGMII_MDIO; JT_MS; RGMII_MDC; RTS3/GPIO5; RGMII_TXEN; WPS; RGMII_TXCLK; PE_RST; RGMII_RxD3; PCIE0_TX+; RGMII_RxD2; PCIE0_TX-; RGMII_RxD1; RGMII_RxD0; PCIE0_CLK-; RGMII_RXDV; PCIE0_CLK+; RGMII_CLK; PCIE1_CLK+; PCIE1_CLK-; UART0_RxD; UART0_TxD; PCIE0_RX-; RESET; PCIE0_RX+; I2C_SCLK; PCIE1_RX-; I2C_SDATA; PCIE1_RX+; PCIE2_TX-; PCIE2_TX+; PCIE2_CLK+; PCIE2_CLK-; PCIE1_TX-; PCIE1_TX+; 3.3V; PCIE2_RX-; PCIE2_RX+

## PC817X
designator D?
PC817X 4-Pin Phototransistor Optocouplers; Manufacturer: SHARP; Maximum Voltage: 80V; Part Number: PC817X; Value: PC817X; Package: DIP-4; Temperature Range: -55°C…+110°C
footprint DIP-4
pins: 1 CА "Анод излучающего диода", 2 CК "Катод излучающего диода", 3 Э "Эмиттер транзистора (n-p-n)", 4 К "Коллектор транзистора"

## PC817XS
designator D?
PC817XS 4-Pin Phototransistor Optocouplers; Manufacturer: SHARP; Maximum Voltage: 80V; Part Number: PC817XS; Value: PC817XS; Package: SOP-4; Temperature Range: -55°C…+110°C
footprint SOIC254P975X460-4N
pins: 1 CА "Анод излучающего диода", 2 CК "Катод излучающего диода", 3 Э "Эмиттер транзистора (n-p-n)", 4 К "Коллектор транзистора"

## QMC5883L
designator D?
3-Axis Magnetic Sensor QMC5883L surface mount 16-pin land grid array (LGA) package.; Vendor Code: QMC5883L; Part Number: QMC5883L; Value: QMC5883L
footprint XDCR_QMC5883L_HMC5883L-TR
pins: 1 SCL, 2 VDD, 3 NC, 4 S1, 5 NC, 6 NC, 7 NC, 8 SETP, 9 GND, 10 C1, 11 GND, 12 SETC, 13 VDDIO, 14 NC, 15 DRDY, 16 SDA

## RS2057XC6
designator D?
RS2057XC6, 4.5Ω Low Voltage SPDT Analog Switch; Manufacturer: Runic; ValueBOM: RS2057XC6   Runic; Value: RS2057XC6; Part Number: RS2057XC6; Package: SOT363/SC70-6; BOM1: RS2057XC6; BOM2: RS2057XC6
footprint SOT363/SC70-6N
footprint SOT363/SC70-6L
pins: 1, 2, 3, 4, 5, 6
text: B2; SW; S; GND; Vcc; B1; A

## RT6302GSP
designator D?
60V IN , 2.5A, Asynchronous Step-Down Converter with Low / Quiescent Current; Manufacturer: Richtek; BOM1: SOP-8 PowerPAD RT6302GSP; ValueBOM: RT6302GSP   Richtek; Part Number: RT6302GSP; Value: RT6302GSP; Package: SOP-8 PowerPAD; BOM2: SOP-8 PowerPAD RT6302GSP
footprint POWER_SO-8
pins: 1 BOOT, 2 VIN, 3 EN, 4 SYNC, 5 FB, 6 COMP, 7 GND, 8 SW, 9 PPAD

## RT7272BGSP
designator D?
3A, 36V, 500kHz Synchronous Step-Down Converter; Manufacturer: Richtek; BOM1: SOP-8 PowerPAD RT7272BGSP; ValueBOM: RT7272BGSP   Richtek; Part Number: RT7272BGSP; Value: RT7272BGSP; Package: SOP-8 PowerPAD; BOM2: SOP-8 PowerPAD RT7272BGSP
footprint POWER_SO-8
pins: 1 SW, 2 BOOT, 3 EN, 4 GND, 5 FB, 6 COMP, 7 RLIM, 8 VIN, 9 PPAD

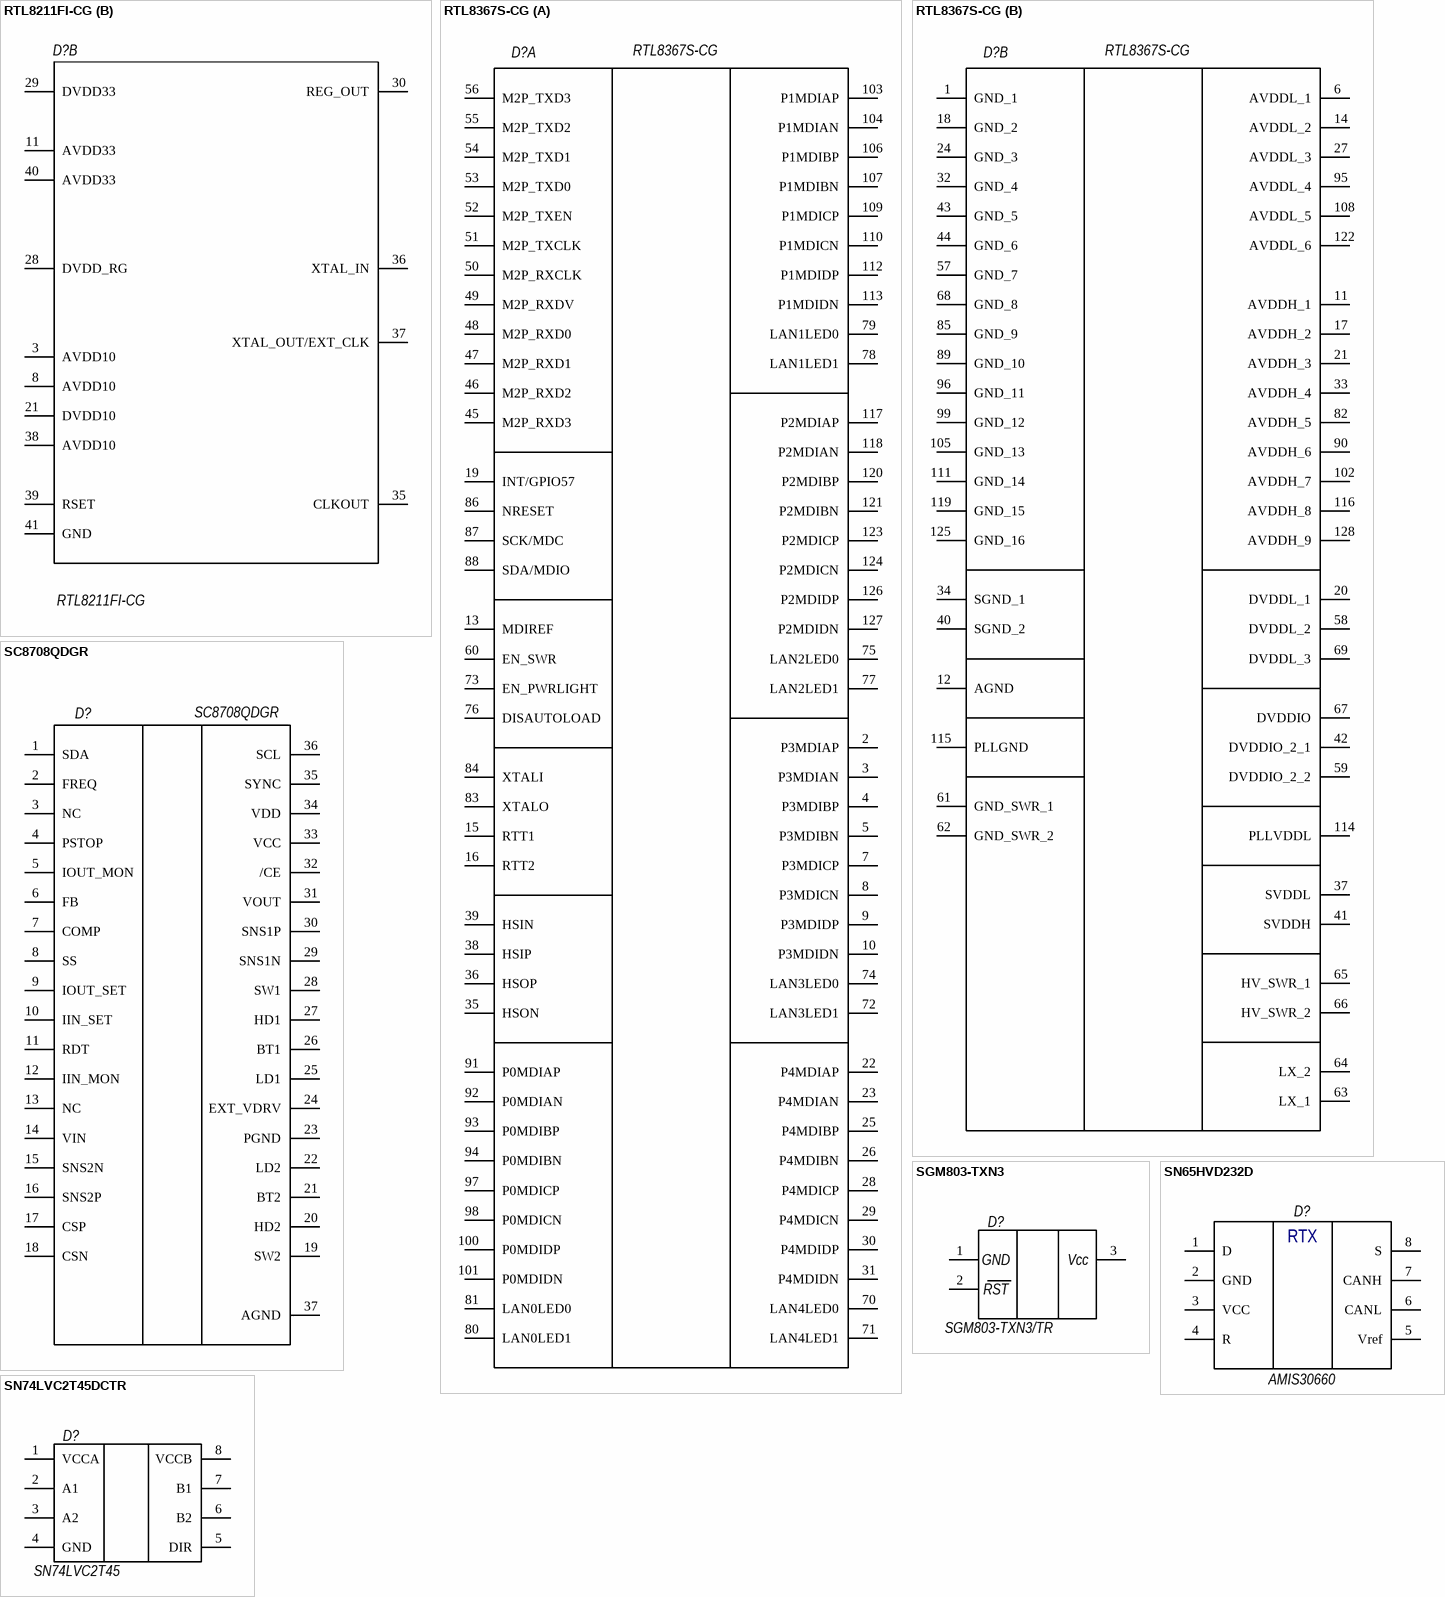
[diagram p10: symbols RTL8211FI-CG to SN74LVC2T45DCTR]

## RTL8211FI-CG
designator D?
Ethernet PHY (RGMII)10Base-T, 100Base-TX, and 1000Base-T IEEE 802.3; Manufacturer: Realtek; BOM1: RTL8211FI-CG Realtek; ValueBOM: RTL8211FI-CG   Realtek; Value: RTL8211FI-CG; Part Number: RTL8211FI-CG; Package: QFN40; BOM2: RTL8211FI-CG Realtek
footprint QFN40P500X500X80-41T375X375N
part A pins: 1 MDIP0, 2 MDIN0, 4 MDIP1, 5 MDIN1, 6 MDIP2, 7 MDIN2, 9 MDIP3, 10 MDIN3, 12 PHYRSTB, 13 MDC, 14 MDIO, 15 TXD3, 16 TXD2, 17 TXD1, 18 TXD0, 19 TXCTL, 20 TXC, 22 RXD3/PHYAD0, 23 RXD2/PLLOFF, 24 RXD1/TXDLY, 25 RXD0/RXDLY, 26 RXCTL/PHYAD2, 27 RXC/PHYAD1, 31 INTB/PMEB, 32 LED0/CFG_EXT, 33 LED1/CFG_LDO0, 34 LED2/CFG_LDO1
part B pins: 3 AVDD10, 8 AVDD10, 11 AVDD33, 21 DVDD10, 28 DVDD_RG, 29 DVDD33, 30 REG_OUT, 35 CLKOUT, 36 XTAL_IN, 37 XTAL_OUT/EXT_CLK, 38 AVDD10, 39 RSET, 40 AVDD33, 41 GND

## RTL8367S-CG
designator D?
RTL8367S-CG is a LQFP-128, LAYER 2 MANAGED 5+2-PORT 10/100/1000M SWITCH CONTROLLER; Manufacturer: Realtek; BOM1: LQFP-128 RTL8367S-CG; ValueBOM: RTL8367S-CG   Realtek; Package: LQFP-128; Value: RTL8367S-CG; Part Number: RTL8367S-CG; BOM2: LQFP-128 RTL8367S-CG
footprint QFP40P1600X1600X160-128N
part A pins: 2 P3MDIAP, 3 P3MDIAN, 4 P3MDIBP, 5 P3MDIBN, 7 P3MDICP, 8 P3MDICN, 9 P3MDIDP, 10 P3MDIDN, 13 MDIREF, 15 RTT1, 16 RTT2, 19 INT/GPIO57, 22 P4MDIAP, 23 P4MDIAN, 25 P4MDIBP, 26 P4MDIBN, 28 P4MDICP, 29 P4MDICN, 30 P4MDIDP, 31 P4MDIDN, 35 HSON, 36 HSOP, 38 HSIP, 39 HSIN, 45 M2P_RXD3, 46 M2P_RXD2, 47 M2P_RXD1, 48 M2P_RXD0, 49 M2P_RXDV, 50 M2P_RXCLK, 51 M2P_TXCLK, 52 M2P_TXEN, 53 M2P_TXD0, 54 M2P_TXD1, 55 M2P_TXD2, 56 M2P_TXD3, 60 EN_SWR, 70 LAN4LED0, 71 LAN4LED1, 72 LAN3LED1, 73 EN_PWRLIGHT, 74 LAN3LED0, 75 LAN2LED0, 76 DISAUTOLOAD, 77 LAN2LED1, 78 LAN1LED1, 79 LAN1LED0, 80 LAN0LED1, 81 LAN0LED0, 83 XTALO, 84 XTALI, 86 NRESET, 87 SCK/MDC, 88 SDA/MDIO, 91 P0MDIAP, 92 P0MDIAN, 93 P0MDIBP, 94 P0MDIBN, 97 P0MDICP, 98 P0MDICN, 100 P0MDIDP, 101 P0MDIDN, 103 P1MDIAP, 104 P1MDIAN, 106 P1MDIBP, 107 P1MDIBN, 109 P1MDICP, 110 P1MDICN, 112 P1MDIDP, 113 P1MDIDN, 117 P2MDIAP, 118 P2MDIAN, 120 P2MDIBP, 121 P2MDIBN, 123 P2MDICP, 124 P2MDICN, 126 P2MDIDP, 127 P2MDIDN
part B pins: 1 GND_1, 6 AVDDL_1, 11 AVDDH_1, 12 AGND, 14 AVDDL_2, 17 AVDDH_2, 18 GND_2, 20 DVDDL_1, 21 AVDDH_3, 24 GND_3, 27 AVDDL_3, 32 GND_4, 33 AVDDH_4, 34 SGND_1, 37 SVDDL, 40 SGND_2, 41 SVDDH, 42 DVDDIO_2_1, 43 GND_5, 44 GND_6, 57 GND_7, 58 DVDDL_2, 59 DVDDIO_2_2, 61 GND_SWR_1, 62 GND_SWR_2, 63 LX_1, 64 LX_2, 65 HV_SWR_1, 66 HV_SWR_2, 67 DVDDIO, 68 GND_8, 69 DVDDL_3, 82 AVDDH_5, 85 GND_9, 89 GND_10, 90 AVDDH_6, 95 AVDDL_4, 96 GND_11, 99 GND_12, 102 AVDDH_7, 105 GND_13, 108 AVDDL_5, 111 GND_14, 114 PLLVDDL, 115 PLLGND, 116 AVDDH_8, 119 GND_15, 122 AVDDL_6, 125 GND_16, 128 AVDDH_9

## SC8708QDGR
designator D?
Synchronous, 80V Bi-directional Buck-Boost Controller with I2C; Manufacturer: SOUTHCHIP SEMICONDUCTOR; BOM1: QFN 5X6-36 SC8708QDGR; ValueBOM: SC8708QDGR   SOUTHCHIP SEMICONDUCTOR; Value: SC8708QDGR; Part Number: SC8708QDGR; Package: QFN 5X6-36; BOM2: QFN 5X6-36 SC8708QDGR
footprint QFN-36-1EP_5x6mm_P0.5mm_EP3.6x4.6mm
pins: 1 SDA, 2 FREQ, 3 NC, 4 PSTOP, 5 IOUT_MON, 6 FB, 7 COMP, 8 SS, 9 IOUT_SET, 10 IIN_SET, 11 RDT, 12 IIN_MON, 13 NC, 14 VIN, 15 SNS2N, 16 SNS2P, 17 CSP, 18 CSN, 19 SW2, 20 HD2, 21 BT2, 22 LD2, 23 PGND, 24 EXT_VDRV, 25 LD1, 26 BT1, 27 HD1, 28 SW1, 29 SNS1N, 30 SNS1P, 31 VOUT, 32 /CE, 33 VCC, 34 VDD, 35 SYNC, 36 SCL, 37 AGND

## SGM803-TXN3
designator D?, comment SGM803-TXN3/TR
Microprocessor Supervisory / Circuit in 3-Pin SOT-23; Manufacturer: SG Micro Corp; BOM1: SOT23-3 SGM803-TXN3; ValueBOM: SGM803-TXN3/TR   SG Micro Corp; Value: SGM803-TXN3/TR; Part Number: SGM803-TXN3/TR; Package: SOT23-3; BOM2: SOT23-3 SGM803-TXN3
footprint SOT23-3N (SOT23, 3-Leads, Body 2.9x1.3mm, Pitch 0.95mm, Lead Span 2.5mm, IPC Medium Density)
footprint SOT23-3M (SOT23, 3-Leads, Body 2.9x1.3mm, Pitch 0.95mm, Lead Span 2.5mm, IPC Low Density)
footprint SOT23-3L (SOT23, 3-Leads, Body 2.9x1.3mm, Pitch 0.95mm, Lead Span 2.5mm, IPC High Density)
pins: 1, 2, 3
text: GND; Vcc; RST

## SN65HVD232D
designator D?, comment AMIS30660
SO8-CAN; Part Number: AMIS30660CANH; Manufacturer: ONS; Value: AMIS30660; Package: SOIC-8; Temperature Range: -40…+85°C
footprint STD_SOIC-8
pins: 1 D, 2 GND, 3 VCC, 4 R, 5 Vref, 6 CANL, 7 CANH, 8 S
text: RTX

## SN74LVC2T45DCTR
designator D?, comment SN74LVC2T45
SN74LVC2T45DCTR DUAL-BIT DUAL-SUPPLY BUS TRANSCEIVER; Manufacturer: Texas Instruments; BOM1: SM8 SN74LVC2T45DCTR; ValueBOM: SN74LVC2T45DCTR   Texas Instruments; Value: SN74LVC2T45; Part Number: SN74LVC2T45DCTR; Package: SM8; BOM2: SM8 SN74LVC2T45DCTR
footprint SOP65P400X130-8N
pins: 1 VCCA, 2 A1, 3 A2, 4 GND, 5 DIR, 6 B2, 7 B1, 8 VCCB

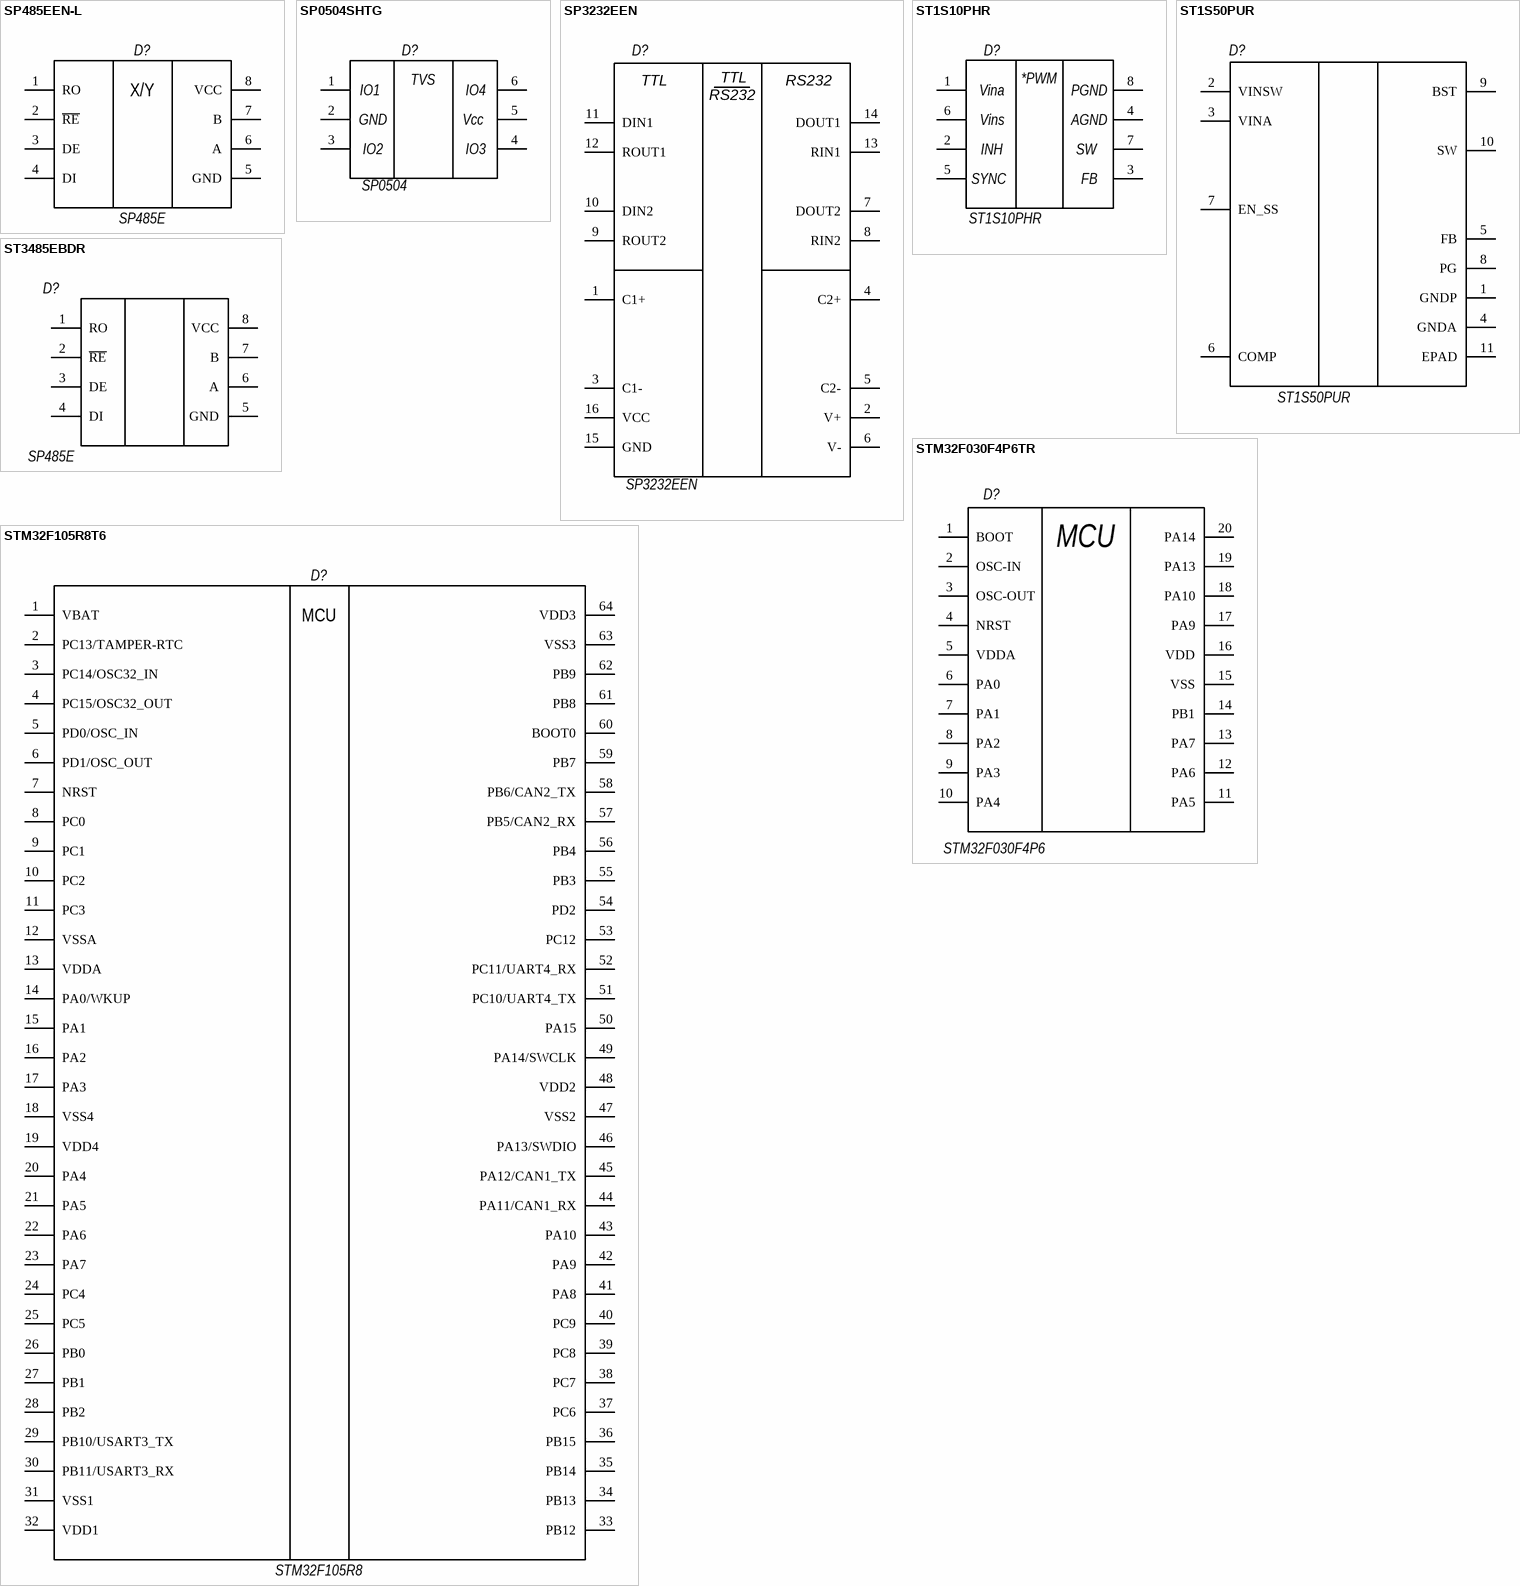
[diagram p11: symbols SP485EEN-L to STM32F105R8T6]

## SP485EEN-L
designator D?, comment SP485E
SO8-RS485; Part Number: SP485EEN-L; Manufacturer: Maxlinear; Value: SP485E; Package: SOIC-8; Temperature Range: -40…+85°C
footprint STD_SOIC-8
pins: 1 RO, 2 ~{RE}, 3 DE, 4 DI, 5 GND, 6 A, 7 B, 8 VCC
text: X/Y

## SP0504SHTG
designator D?, comment SP0504
TVS Diode Arrays SP0504SHTG, Low Capacitance 0.85 pF, ESD Protection rating of ±15kV; Manufacturer: Littelfuse, Inc.; BOM1: SOT23-6 SP0504SHTG; ValueBOM: SP0504SHTG   Littelfuse, Inc.; Part Number: SP0504SHTG; Package: SOT23-6; BOM2: SOT23-6 SP0504SHTG; Value: SP0504
footprint SOT23-6N (SOT23, 6-Leads, Body 2.9x1.3mm, Pitch 0.95mm, Lead Span 2.5mm, IPC Medium Density)
footprint SOT23-6M (SOT23, 6-Leads, Body 2.9x1.3mm, Pitch 0.95mm, Lead Span 2.5mm, IPC Low Density)
footprint SOT23-6L (SOT23, 6-Leads, Body 2.9x1.3mm, Pitch 0.95mm, Lead Span 2.5mm, IPC High Density)
pins: 1, 2, 3, 4, 5, 6
text: IO1; TVS; IO4; GND; Vcc; IO2; IO3

## SP3232EEN
designator D?
SP3232EEN SO-16 3.0v to 5.5v; Manufacturer: MaxLinear; BOM1: SO-16 SP3232EEN; ValueBOM: SP3232EEN   MaxLinear; Part Number: SP3232EEN; Package: SO-16; BOM2: SO-16 SP3232EEN; Value: SP3232EEN
footprint SO-16
pins: 1 C1+, 2 V+, 3 C1-, 4 C2+, 5 C2-, 6 V-, 7 DOUT2, 8 RIN2, 9 ROUT2, 10 DIN2, 11 DIN1, 12 ROUT1, 13 RIN1, 14 DOUT1, 15 GND, 16 VCC
text: TTL; RS232